# Altium schematic symbol library ParsaLibrary.SchLib: 419 symbols (part 3 of 3)
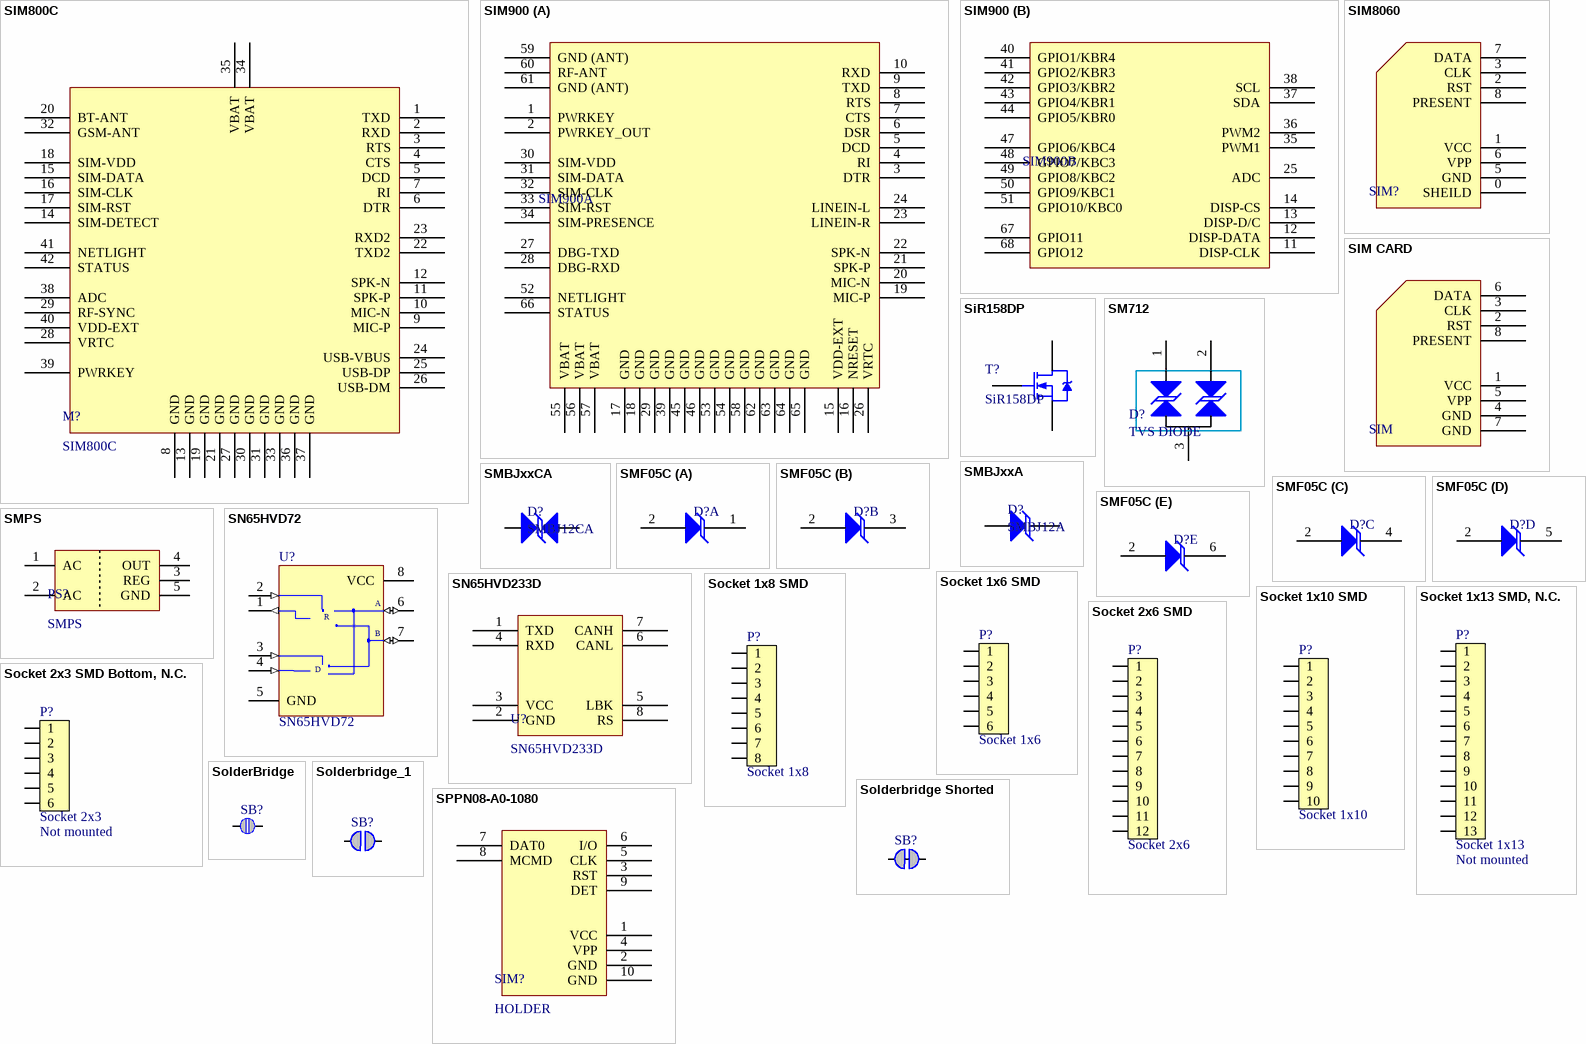
[diagram p19: symbols SIM800C to SPPN08-A0-1080]

## Socket 1x10 SMD
designator P?, comment Socket 1x10
Socket 1x10, 2.54mm (100mil), SMD; Part Number: Socket 1x10 SMD; Manufacturer: W-CON; Manufacturer Part Number: 2171-110MS0CUNR1; Part number IPS: 00000009965; Note: N.A.; Artikkelnr Noca: 55030004; Pad Count: 10; Footprint Doc: SOCKET_1x10_SMD; LatestRevisionDate: 2016-01-22; Published: 2016-01-22; Value: Socket 1x10; ComponentLink1URL: N.A.; ComponentLink1Description: Datasheet; ComponentLink2URL: N.A.; ComponentLink2Description: Supplier link; HelpURL: N.A.; Supplier 1: Cabcon; Supplier Part Number 1: 2171-110MS0CUNR1; Supplier 2: Samtec; Supplier Part Number 2: SSM-110-F-SV-P-TR; Component Class: Connectors; PartId: 100500416
footprint SOCKET_1x10_SMD
pins: 1, 2, 3, 4, 5, 6, 7, 8, 9, 10

## Socket 1x13 SMD, N.C.
designator P?, comment Socket 1x13  Assembly: Not mounted
Socket 1x13, 2.54mm (100mil), SMD; Part Number: Socket 1x13 SMD, N.C.; Manufacturer: W-CON; Manufacturer Part Number: 2171-113MS0CUNR1; Note: N.A.; Pad Count: 13; Footprint Doc: SOCKET_1x13_SMD; LatestRevisionDate: 2019-05-27; Published: 2019-05-27; Value: Socket 1x13; Artikkelnr Noca: N.A.; Part number IPS: N.A.; ComponentLink1URL: N.A.; ComponentLink1Description: Datasheet; ComponentLink2URL: N.A.; ComponentLink2Description: Supplier link; HelpURL: N.A.; Supplier 1: Cabcon; Supplier Part Number 1: 2171-113MS0CUNR1; Supplier 2: Samtec; Supplier Part Number 2: SSM-113-L-SV-P-TR; Component Class: Connectors; PartId: 100500422
footprint LIST_1x13_SMD-NC
pins: 1, 2, 3, 4, 5, 6, 7, 8, 9, 10, 11, 12, 13

## Socket 2x3 SMD Bottom, N.C.
designator P?, comment Socket 2x3  Assembly: Not mounted
Socket 2x3, 2.54mm (100mil), SMD; Part Number: Socket 2x3 SMD Bottom, N.C.; Manufacturer: W-CON; Manufacturer Part Number: 2171-203MS0CUNR1; Note: N.A.; Artikkelnr Noca: 55030010; Pad Count: 6; LatestRevisionDate: 2016-03-29; Published: 2014-06-10; Value: Socket 2x3; Footprint Doc: SOCKET_2x3_SMD-2.54mm-bottom; Part number IPS: N.A.; ComponentLink1URL: N.A.; ComponentLink1Description: Datasheet; ComponentLink2URL: N.A.; ComponentLink2Description: Supplier link; HelpURL: \\hizz\pro\app9717\Datasheet\connectors\W-CON\2171-2XXMXXCUNXX.pdf; Supplier 1: Cabcon; Supplier Part Number 1: 2171-203MS0CUNR1; Supplier 2: Samtec; Supplier Part Number 2: SSM-103-F-DV-P-TR; Component Class: Connectors; PartId: 100500434
footprint SOCKET_2x3_SMD-2.54mm-bottom-NC
pins: 1, 2, 3, 4, 5, 6

## Socket 2x6 SMD
designator P?, comment Socket 2x6
Socket 2x6, 2.54mm (100mil), SMD; Part Number: Socket 2x6 SMD; Manufacturer: W-CON; Manufacturer Part Number: 2171-206MS0CUNR1; Note: N.A.; Pad Count: 12; Footprint Doc: SOCKET_2x6_SMD-2.54mm; LatestRevisionDate: 2019-04-12; Published: 2019-04-12; Value: Socket 2x6; Artikkelnr Noca: N.A.; Part number IPS: N.A.; ComponentLink1URL: N.A.; ComponentLink1Description: Datasheet; ComponentLink2URL: N.A.; ComponentLink2Description: Supplier link; HelpURL: N.A.; Supplier 1: Cabcon; Supplier Part Number 1: 2171-206MS0CUNR1; Supplier 2: Samtec; Supplier Part Number 2: SSM-106-F-DV-P-TR; Component Class: Connectors; PartId: 100500439
footprint SOCKET_2x6_SMD-2.54mm
pins: 1, 2, 3, 4, 5, 6, 7, 8, 9, 10, 11, 12

## SolderBridge
designator SB?  (value not drawn)
footprint SB-NO
pins: 1, 2 1

## Solderbridge Shorted
designator SB?, comment Solderbridge  (value not drawn)  (net tie, no BOM)
Shorted Solderbridge; Part Number: Solderbridge Shorted; Manufacturer: N.A.; Pad Count: 2; Manufacturer Part Number: N.A.; LatestRevisionDate: 2012-08-07; Published: 2012-08-07; Value: Solderbridge; Note: N.A.; Artikkelnr Noca: N.A.; Footprint Doc: Solderbridge_Shorted; Part number IPS: N.A.; ComponentLink1URL: N.A.; ComponentLink1Description: Datasheet; ComponentLink2URL: N.A.; ComponentLink2Description: Supplier link; HelpURL: N.A.; Supplier 1: N.A.; Supplier Part Number 1: N.A.; Supplier 2: N.A.; Supplier Part Number 2: N.A.; Component Class: Connectors; PartId: 100500459
footprint Solderbridge_Shorted
pins: 1 0, 2 1

## Solderbridge_1
designator SB?, comment Solderbridge  (value not drawn)  (no BOM)
Manufacturer: N.A.; Pad Count: 2; Part Number: Solderbridge; Manufacturer Part Number: N.A.; LatestRevisionDate: 2009-12-14; Published: 2009-12-14; Value: Solderbridge; Note: N.A.; Artikkelnr Noca: N.A.; Footprint Doc: Solderbridge; Part number IPS: N.A.; ComponentLink1URL: N.A.; ComponentLink1Description: Datasheet; ComponentLink2URL: N.A.; ComponentLink2Description: Supplier link; HelpURL: N.A.; Supplier 1: N.A.; Supplier Part Number 1: N.A.; Supplier 2: N.A.; Supplier Part Number 2: N.A.; Component Class: Connectors; PartId: 100500458
footprint Solderbridge
pins: 1 0, 2 1

## SPPN08-A0-1080
designator SIM?, comment HOLDER
8pin SimCard holder
footprint SPPN08-A0-1080 (8pin Sim card holder)
pins: 1 VCC, 2 GND, 3 RST, 4 VPP, 5 CLK, 6 I/O, 7 DAT0, 8 MCMD, 9 DET, 10 GND

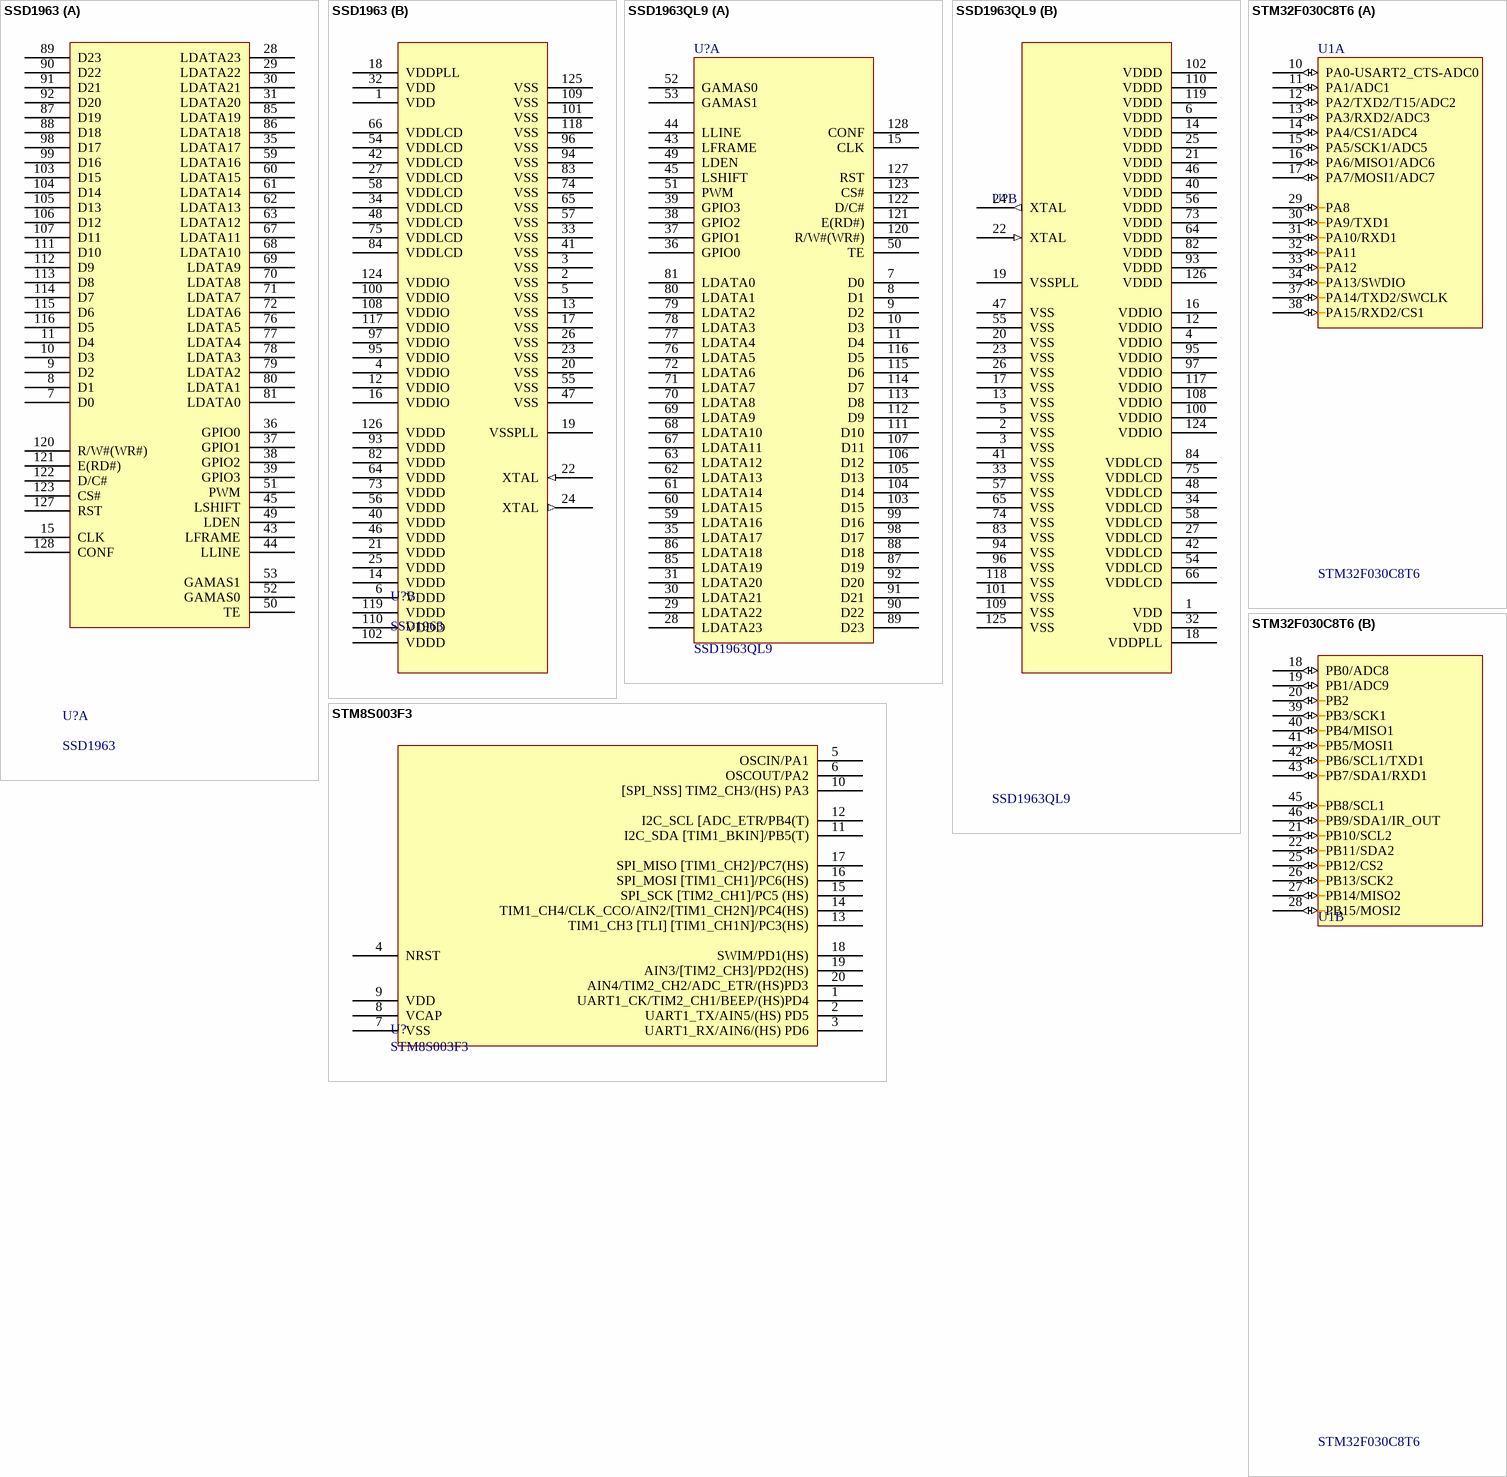
[diagram p12: symbols SSD1963 to STM32F030C8T6]

## SSD1963
designator U?
footprint TQFP-128
part A pins: 7 D0, 8 D1, 9 D2, 10 D3, 11 D4, 15 CLK, 28 LDATA23, 29 LDATA22, 30 LDATA21, 31 LDATA20, 35 LDATA17, 36 GPIO0, 37 GPIO1, 38 GPIO2, 39 GPIO3, 43 LFRAME, 44 LLINE, 45 LSHIFT, 49 LDEN, 50 TE, 51 PWM, 52 GAMAS0, 53 GAMAS1, 59 LDATA16, 60 LDATA15, 61 LDATA14, 62 LDATA13, 63 LDATA12, 67 LDATA11, 68 LDATA10, 69 LDATA9, 70 LDATA8, 71 LDATA7, 72 LDATA6, 76 LDATA5, 77 LDATA4, 78 LDATA3, 79 LDATA2, 80 LDATA1, 81 LDATA0, 85 LDATA19, 86 LDATA18, 87 D19, 88 D18, 89 D23, 90 D22, 91 D21, 92 D20, 98 D17, 99 D16, 103 D15, 104 D14, 105 D13, 106 D12, 107 D11, 111 D10, 112 D9, 113 D8, 114 D7, 115 D6, 116 D5, 120 R/W#(WR#), 121 E(RD#), 122 D/C#, 123 CS#, 127 RST, 128 CONF
part B pins: 1 VDD, 2 VSS, 3 VSS, 4 VDDIO, 5 VSS, 6 VDDD, 12 VDDIO, 13 VSS, 14 VDDD, 16 VDDIO, 17 VSS, 18 VDDPLL, 19 VSSPLL, 20 VSS, 21 VDDD, 22 XTAL (in), 23 VSS, 24 XTAL (out), 25 VDDD, 26 VSS, 27 VDDLCD, 32 VDD, 33 VSS, 34 VDDLCD, 40 VDDD, 41 VSS, 42 VDDLCD, 46 VDDD, 47 VSS, 48 VDDLCD, 54 VDDLCD, 55 VSS, 56 VDDD, 57 VSS, 58 VDDLCD, 64 VDDD, 65 VSS, 66 VDDLCD, 73 VDDD, 74 VSS, 75 VDDLCD, 82 VDDD, 83 VSS, 84 VDDLCD, 93 VDDD, 94 VSS, 95 VDDIO, 96 VSS, 97 VDDIO, 100 VDDIO, 101 VSS, 102 VDDD, 108 VDDIO, 109 VSS, 110 VDDD, 117 VDDIO, 118 VSS, 119 VDDD, 124 VDDIO, 125 VSS, 126 VDDD

## SSD1963QL9
designator U?
footprint TQFP-128
part A pins: 7 D0, 8 D1, 9 D2, 10 D3, 11 D4, 15 CLK, 28 LDATA23, 29 LDATA22, 30 LDATA21, 31 LDATA20, 35 LDATA17, 36 GPIO0, 37 GPIO1, 38 GPIO2, 39 GPIO3, 43 LFRAME, 44 LLINE, 45 LSHIFT, 49 LDEN, 50 TE, 51 PWM, 52 GAMAS0, 53 GAMAS1, 59 LDATA16, 60 LDATA15, 61 LDATA14, 62 LDATA13, 63 LDATA12, 67 LDATA11, 68 LDATA10, 69 LDATA9, 70 LDATA8, 71 LDATA7, 72 LDATA6, 76 LDATA5, 77 LDATA4, 78 LDATA3, 79 LDATA2, 80 LDATA1, 81 LDATA0, 85 LDATA19, 86 LDATA18, 87 D19, 88 D18, 89 D23, 90 D22, 91 D21, 92 D20, 98 D17, 99 D16, 103 D15, 104 D14, 105 D13, 106 D12, 107 D11, 111 D10, 112 D9, 113 D8, 114 D7, 115 D6, 116 D5, 120 R/W#(WR#), 121 E(RD#), 122 D/C#, 123 CS#, 127 RST, 128 CONF
part B pins: 1 VDD, 2 VSS, 3 VSS, 4 VDDIO, 5 VSS, 6 VDDD, 12 VDDIO, 13 VSS, 14 VDDD, 16 VDDIO, 17 VSS, 18 VDDPLL, 19 VSSPLL, 20 VSS, 21 VDDD, 22 XTAL (in), 23 VSS, 24 XTAL (out), 25 VDDD, 26 VSS, 27 VDDLCD, 32 VDD, 33 VSS, 34 VDDLCD, 40 VDDD, 41 VSS, 42 VDDLCD, 46 VDDD, 47 VSS, 48 VDDLCD, 54 VDDLCD, 55 VSS, 56 VDDD, 57 VSS, 58 VDDLCD, 64 VDDD, 65 VSS, 66 VDDLCD, 73 VDDD, 74 VSS, 75 VDDLCD, 82 VDDD, 83 VSS, 84 VDDLCD, 93 VDDD, 94 VSS, 95 VDDIO, 96 VSS, 97 VDDIO, 100 VDDIO, 101 VSS, 102 VDDD, 108 VDDIO, 109 VSS, 110 VDDD, 117 VDDIO, 118 VSS, 119 VDDD, 124 VDDIO, 125 VSS, 126 VDDD

## STM8S003F3
designator U?
Value line, 16-MHz STM8S 8-bit MCU, 8-Kbyte Flash memory, / 128-byte data EEPROM, 10-bit ADC, 3 timers, UART, SPI, I²C
footprint TSSOP-20 (Footprint not found)
pins: 1 UART1_CK/TIM2_CH1/BEEP/(HS)PD4, 2 UART1_TX/AIN5/(HS) PD5, 3 UART1_RX/AIN6/(HS) PD6, 4 NRST, 5 OSCIN/PA1, 6 OSCOUT/PA2, 7 VSS, 8 VCAP, 9 VDD, 10 [SPI_NSS] TIM2_CH3/(HS) PA3, 11 I2C_SDA [TIM1_BKIN]/PB5(T), 12 I2C_SCL [ADC_ETR/PB4(T), 13 TIM1_CH3 [TLI] [TIM1_CH1N]/PC3(HS), 14 TIM1_CH4/CLK_CCO/AIN2/[TIM1_CH2N]/PC4(HS), 15 SPI_SCK [TIM2_CH1]/PC5 (HS), 16 SPI_MOSI [TIM1_CH1]/PC6(HS), 17 SPI_MISO [TIM1_CH2]/PC7(HS), 18 SWIM/PD1(HS), 19 AIN3/[TIM2_CH3]/PD2(HS), 20 AIN4/TIM2_CH2/ADC_ETR/(HS)PD3

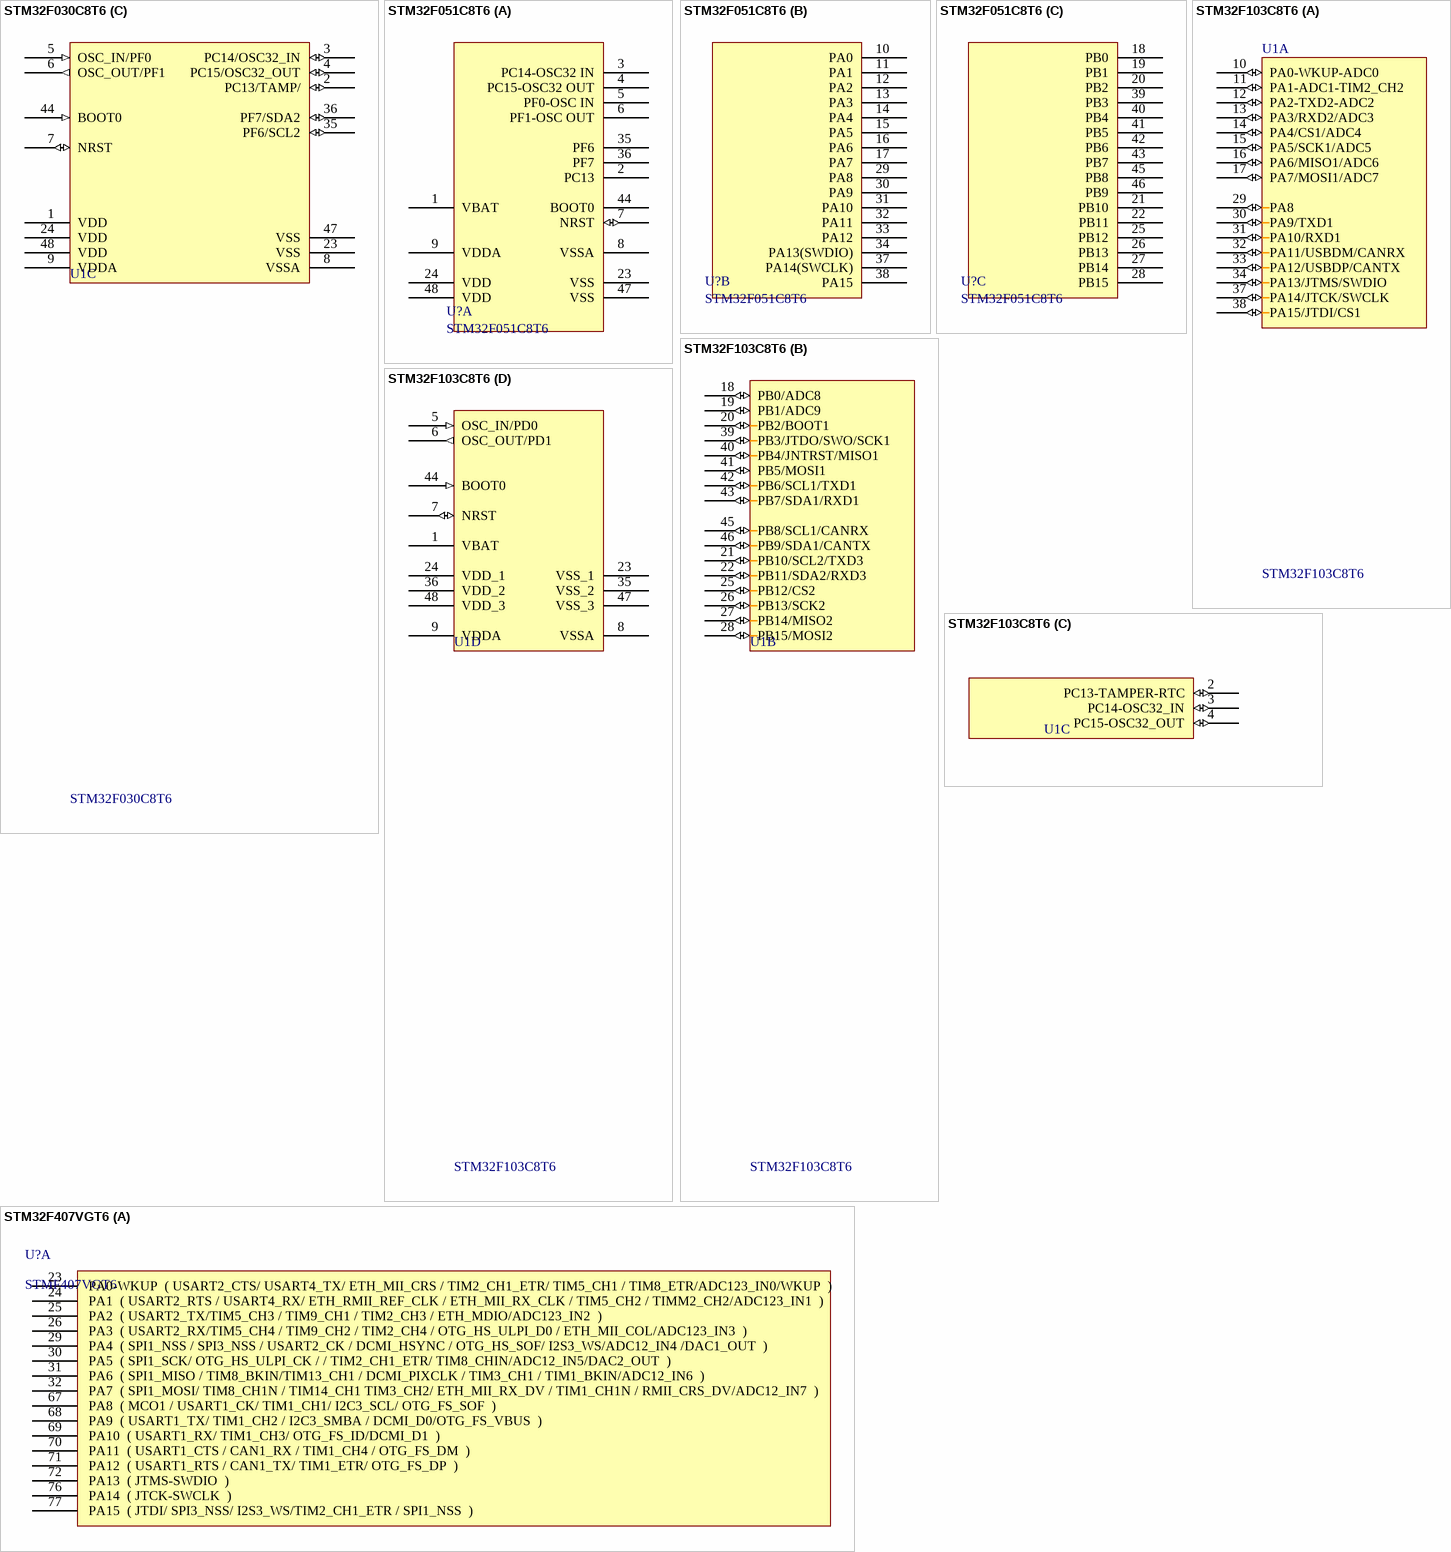
[diagram p13: symbols STM32F030C8T6 to STM32F407VGT6]

## STM32F030C8T6
designator U1
STM32 ARM-based 32-bit MCU with 64 Kbytes Flash, 48-pin LQFP, Industrial Temperature; Published: 30-May-2008; DatasheetVersion: rev6, Mar-2008; PackageVersion: Mar-2008; PackageReference: LQFP48; Publisher: Altium Limited; PackageDescription: 48-Pin Low-Profile Quad Flat Pack, 7 x 7 mm Body, 0.5 mm Pitch (LQFP48); ComponentLink1Description: Manufacturer Link; ComponentLink1URL: www.st.com/stm32; ComponentLink2Description: Datasheet; ComponentLink2URL: http://www.st.com/stonline/products/literature/ds/13587.pdf
footprint LQFP-48
part A pins: 10 PA0-USART2_CTS-ADC0 (io), 11 PA1/ADC1 (io), 12 PA2/TXD2/T15/ADC2 (io), 13 PA3/RXD2/ADC3 (io), 14 PA4/CS1/ADC4 (io), 15 PA5/SCK1/ADC5 (io), 16 PA6/MISO1/ADC6 (io), 17 PA7/MOSI1/ADC7 (io), 29 PA8 (io), 30 PA9/TXD1 (io), 31 PA10/RXD1 (io), 32 PA11 (io), 33 PA12 (io), 34 PA13/SWDIO (io), 37 PA14/TXD2/SWCLK (io), 38 PA15/RXD2/CS1 (io)
part B pins: 18 PB0/ADC8 (io), 19 PB1/ADC9 (io), 20 PB2 (io), 21 PB10/SCL2 (io), 22 PB11/SDA2 (io), 25 PB12/CS2 (io), 26 PB13/SCK2 (io), 27 PB14/MISO2 (io), 28 PB15/MOSI2 (io), 39 PB3/SCK1 (io), 40 PB4/MISO1 (io), 41 PB5/MOSI1 (io), 42 PB6/SCL1/TXD1 (io), 43 PB7/SDA1/RXD1 (io), 45 PB8/SCL1 (io), 46 PB9/SDA1/IR_OUT (io)
part C pins: 1 VDD (power), 2 PC13/TAMP/ (io), 3 PC14/OSC32_IN (io), 4 PC15/OSC32_OUT (io), 5 OSC_IN/PF0 (in), 6 OSC_OUT/PF1 (out), 7 NRST (io), 8 VSSA (power), 9 VDDA (power), 23 VSS (power), 24 VDD (power), 35 PF6/SCL2 (io), 36 PF7/SDA2 (io), 44 BOOT0 (in), 47 VSS (power), 48 VDD (power)

## STM32F051C8T6
designator U?
ARM®-based 32-bit MCU, 16 to 64 KB Flash, 11 timers, ADC, / DAC and communication interfaces, 2.0-3.6 V
footprint LQFP-48
part A pins: 1 VBAT, 2 PC13, 3 PC14-OSC32 IN, 4 PC15-OSC32 OUT, 5 PF0-OSC IN, 6 PF1-OSC OUT, 7 NRST (io) "Device reset input / internal reset output", 8 VSSA (power) "Analog ground", 9 VDDA (power), 23 VSS, 24 VDD, 35 PF6, 36 PF7, 44 BOOT0, 47 VSS, 48 VDD
part B pins: 10 PA0, 11 PA1, 12 PA2, 13 PA3, 14 PA4, 15 PA5, 16 PA6, 17 PA7, 29 PA8, 30 PA9, 31 PA10, 32 PA11, 33 PA12, 34 PA13(SWDIO), 37 PA14(SWCLK), 38 PA15
part C pins: 18 PB0, 19 PB1, 20 PB2, 21 PB10, 22 PB11, 25 PB12, 26 PB13, 27 PB14, 28 PB15, 39 PB3, 40 PB4, 41 PB5, 42 PB6, 43 PB7, 45 PB8, 46 PB9

## STM32F103C8T6
designator U1
STM32 ARM-based 32-bit MCU with 64 Kbytes Flash, 48-pin LQFP, Industrial Temperature; Published: 30-May-2008; DatasheetVersion: rev6, Mar-2008; PackageVersion: Mar-2008; PackageReference: LQFP48; Publisher: Altium Limited; PackageDescription: 48-Pin Low-Profile Quad Flat Pack, 7 x 7 mm Body, 0.5 mm Pitch (LQFP48); ComponentLink1Description: Manufacturer Link; ComponentLink1URL: www.st.com/stm32; ComponentLink2Description: Datasheet; ComponentLink2URL: http://www.st.com/stonline/products/literature/ds/13587.pdf
footprint LQFP-48
part A pins: 10 PA0-WKUP-ADC0 (io), 11 PA1-ADC1-TIM2_CH2 (io), 12 PA2-TXD2-ADC2 (io), 13 PA3/RXD2/ADC3 (io), 14 PA4/CS1/ADC4 (io), 15 PA5/SCK1/ADC5 (io), 16 PA6/MISO1/ADC6 (io), 17 PA7/MOSI1/ADC7 (io), 29 PA8 (io), 30 PA9/TXD1 (io), 31 PA10/RXD1 (io), 32 PA11/USBDM/CANRX (io), 33 PA12/USBDP/CANTX (io), 34 PA13/JTMS/SWDIO (io), 37 PA14/JTCK/SWCLK (io), 38 PA15/JTDI/CS1 (io)
part B pins: 18 PB0/ADC8 (io), 19 PB1/ADC9 (io), 20 PB2/BOOT1 (io), 21 PB10/SCL2/TXD3 (io), 22 PB11/SDA2/RXD3 (io), 25 PB12/CS2 (io), 26 PB13/SCK2 (io), 27 PB14/MISO2 (io), 28 PB15/MOSI2 (io), 39 PB3/JTDO/SWO/SCK1 (io), 40 PB4/JNTRST/MISO1 (io), 41 PB5/MOSI1 (io), 42 PB6/SCL1/TXD1 (io), 43 PB7/SDA1/RXD1 (io), 45 PB8/SCL1/CANRX (io), 46 PB9/SDA1/CANTX (io)
part C pins: 2 PC13-TAMPER-RTC (io), 3 PC14-OSC32_IN (io), 4 PC15-OSC32_OUT (io)
part D pins: 1 VBAT (power), 5 OSC_IN/PD0 (in), 6 OSC_OUT/PD1 (out), 7 NRST (io), 8 VSSA (power), 9 VDDA (power), 23 VSS_1 (power), 24 VDD_1 (power), 35 VSS_2 (power), 36 VDD_2 (power), 44 BOOT0 (in), 47 VSS_3 (power), 48 VDD_3 (power)

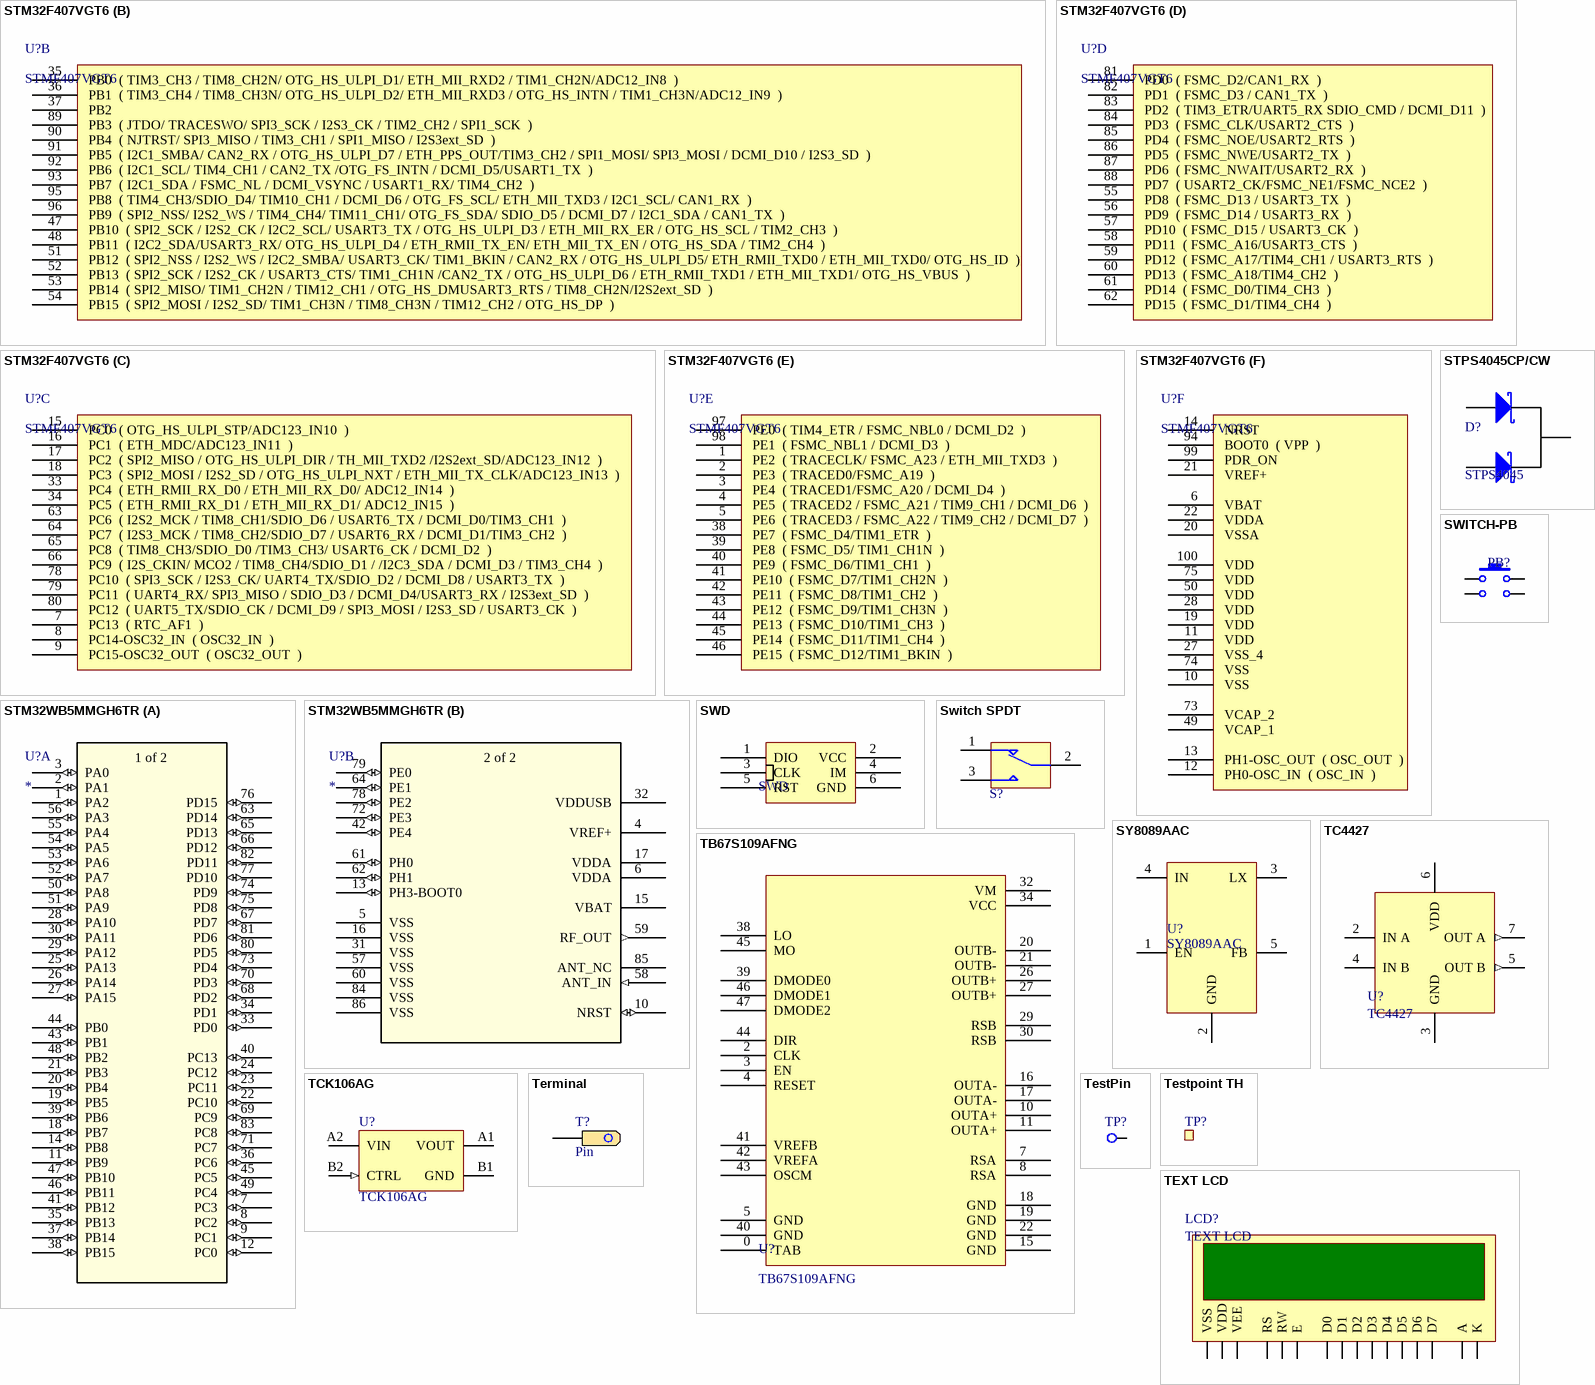
[diagram p14: symbols STM32F407VGT6 to TEXT LCD]

## STM32F407VGT6
designator U?, comment STMF407VGT6
footprint TQFP-100
part A pins: 23  PA0-WKUP  ( USART2_CTS/ USART4_TX/ ETH_MII_CRS / TIM2_CH1_ETR/ TIM5_CH1 / TIM8_ETR/ADC123_IN0/WKUP  ), 24  PA1  ( USART2_RTS / USART4_RX/ ETH_RMII_REF_CLK / ETH_MII_RX_CLK / TIM5_CH2 / TIMM2_CH2/ADC123_IN1  ), 25  PA2  ( USART2_TX/TIM5_CH3 / TIM9_CH1 / TIM2_CH3 / ETH_MDIO/ADC123_IN2  ), 26  PA3  ( USART2_RX/TIM5_CH4 / TIM9_CH2 / TIM2_CH4 / OTG_HS_ULPI_D0 / ETH_MII_COL/ADC123_IN3  ), 29  PA4  ( SPI1_NSS / SPI3_NSS / USART2_CK / DCMI_HSYNC / OTG_HS_SOF/ I2S3_WS/ADC12_IN4 /DAC1_OUT  ), 30  PA5  ( SPI1_SCK/ OTG_HS_ULPI_CK / / TIM2_CH1_ETR/ TIM8_CHIN/ADC12_IN5/DAC2_OUT  ), 31  PA6  ( SPI1_MISO / TIM8_BKIN/TIM13_CH1 / DCMI_PIXCLK / TIM3_CH1 / TIM1_BKIN/ADC12_IN6  ), 32  PA7  ( SPI1_MOSI/ TIM8_CH1N / TIM14_CH1 TIM3_CH2/ ETH_MII_RX_DV / TIM1_CH1N / RMII_CRS_DV/ADC12_IN7  ), 67  PA8  ( MCO1 / USART1_CK/ TIM1_CH1/ I2C3_SCL/ OTG_FS_SOF  ), 68  PA9  ( USART1_TX/ TIM1_CH2 / I2C3_SMBA / DCMI_D0/OTG_FS_VBUS  ), 69  PA10  ( USART1_RX/ TIM1_CH3/ OTG_FS_ID/DCMI_D1  ), 70  PA11  ( USART1_CTS / CAN1_RX / TIM1_CH4 / OTG_FS_DM  ), 71  PA12  ( USART1_RTS / CAN1_TX/ TIM1_ETR/ OTG_FS_DP  ), 72  PA13  ( JTMS-SWDIO  ), 76  PA14  ( JTCK-SWCLK  ), 77  PA15  ( JTDI/ SPI3_NSS/ I2S3_WS/TIM2_CH1_ETR / SPI1_NSS  )
part B pins: 35  PB0  ( TIM3_CH3 / TIM8_CH2N/ OTG_HS_ULPI_D1/ ETH_MII_RXD2 / TIM1_CH2N/ADC12_IN8  ), 36  PB1  ( TIM3_CH4 / TIM8_CH3N/ OTG_HS_ULPI_D2/ ETH_MII_RXD3 / OTG_HS_INTN / TIM1_CH3N/ADC12_IN9  ), 37  PB2  , 47  PB10  ( SPI2_SCK / I2S2_CK / I2C2_SCL/ USART3_TX / OTG_HS_ULPI_D3 / ETH_MII_RX_ER / OTG_HS_SCL / TIM2_CH3  ), 48  PB11  ( I2C2_SDA/USART3_RX/ OTG_HS_ULPI_D4 / ETH_RMII_TX_EN/ ETH_MII_TX_EN / OTG_HS_SDA / TIM2_CH4  ), 51  PB12  ( SPI2_NSS / I2S2_WS / I2C2_SMBA/ USART3_CK/ TIM1_BKIN / CAN2_RX / OTG_HS_ULPI_D5/ ETH_RMII_TXD0 / ETH_MII_TXD0/ OTG_HS_ID  ), 52  PB13  ( SPI2_SCK / I2S2_CK / USART3_CTS/ TIM1_CH1N /CAN2_TX / OTG_HS_ULPI_D6 / ETH_RMII_TXD1 / ETH_MII_TXD1/ OTG_HS_VBUS  ), 53  PB14  ( SPI2_MISO/ TIM1_CH2N / TIM12_CH1 / OTG_HS_DMUSART3_RTS / TIM8_CH2N/I2S2ext_SD  ), 54  PB15  ( SPI2_MOSI / I2S2_SD/ TIM1_CH3N / TIM8_CH3N / TIM12_CH2 / OTG_HS_DP  ), 89  PB3  ( JTDO/ TRACESWO/ SPI3_SCK / I2S3_CK / TIM2_CH2 / SPI1_SCK  ), 90  PB4  ( NJTRST/ SPI3_MISO / TIM3_CH1 / SPI1_MISO / I2S3ext_SD  ), 91  PB5  ( I2C1_SMBA/ CAN2_RX / OTG_HS_ULPI_D7 / ETH_PPS_OUT/TIM3_CH2 / SPI1_MOSI/ SPI3_MOSI / DCMI_D10 / I2S3_SD  ), 92  PB6  ( I2C1_SCL/ TIM4_CH1 / CAN2_TX /OTG_FS_INTN / DCMI_D5/USART1_TX  ), 93  PB7  ( I2C1_SDA / FSMC_NL / DCMI_VSYNC / USART1_RX/ TIM4_CH2  ), 95  PB8  ( TIM4_CH3/SDIO_D4/ TIM10_CH1 / DCMI_D6 / OTG_FS_SCL/ ETH_MII_TXD3 / I2C1_SCL/ CAN1_RX  ), 96  PB9  ( SPI2_NSS/ I2S2_WS / TIM4_CH4/ TIM11_CH1/ OTG_FS_SDA/ SDIO_D5 / DCMI_D7 / I2C1_SDA / CAN1_TX  )
part C pins: 7  PC13  ( RTC_AF1  ), 8  PC14-OSC32_IN  ( OSC32_IN  ), 9  PC15-OSC32_OUT  ( OSC32_OUT  ), 15  PC0  ( OTG_HS_ULPI_STP/ADC123_IN10  ), 16  PC1  ( ETH_MDC/ADC123_IN11  ), 17  PC2  ( SPI2_MISO / OTG_HS_ULPI_DIR / TH_MII_TXD2 /I2S2ext_SD/ADC123_IN12  ), 18  PC3  ( SPI2_MOSI / I2S2_SD / OTG_HS_ULPI_NXT / ETH_MII_TX_CLK/ADC123_IN13  ), 33  PC4  ( ETH_RMII_RX_D0 / ETH_MII_RX_D0/ ADC12_IN14  ), 34  PC5  ( ETH_RMII_RX_D1 / ETH_MII_RX_D1/ ADC12_IN15  ), 63  PC6  ( I2S2_MCK / TIM8_CH1/SDIO_D6 / USART6_TX / DCMI_D0/TIM3_CH1  ), 64  PC7  ( I2S3_MCK / TIM8_CH2/SDIO_D7 / USART6_RX / DCMI_D1/TIM3_CH2  ), 65  PC8  ( TIM8_CH3/SDIO_D0 /TIM3_CH3/ USART6_CK / DCMI_D2  ), 66  PC9  ( I2S_CKIN/ MCO2 / TIM8_CH4/SDIO_D1 / /I2C3_SDA / DCMI_D3 / TIM3_CH4  ), 78  PC10  ( SPI3_SCK / I2S3_CK/ UART4_TX/SDIO_D2 / DCMI_D8 / USART3_TX  ), 79  PC11  ( UART4_RX/ SPI3_MISO / SDIO_D3 / DCMI_D4/USART3_RX / I2S3ext_SD  ), 80  PC12  ( UART5_TX/SDIO_CK / DCMI_D9 / SPI3_MOSI / I2S3_SD / USART3_CK  )
part D pins: 55  PD8  ( FSMC_D13 / USART3_TX  ), 56  PD9  ( FSMC_D14 / USART3_RX  ), 57  PD10  ( FSMC_D15 / USART3_CK  ), 58  PD11  ( FSMC_A16/USART3_CTS  ), 59  PD12  ( FSMC_A17/TIM4_CH1 / USART3_RTS  ), 60  PD13  ( FSMC_A18/TIM4_CH2  ), 61  PD14  ( FSMC_D0/TIM4_CH3  ), 62  PD15  ( FSMC_D1/TIM4_CH4  ), 81  PD0  ( FSMC_D2/CAN1_RX  ), 82  PD1  ( FSMC_D3 / CAN1_TX  ), 83  PD2  ( TIM3_ETR/UART5_RX SDIO_CMD / DCMI_D11  ), 84  PD3  ( FSMC_CLK/USART2_CTS  ), 85  PD4  ( FSMC_NOE/USART2_RTS  ), 86  PD5  ( FSMC_NWE/USART2_TX  ), 87  PD6  ( FSMC_NWAIT/USART2_RX  ), 88  PD7  ( USART2_CK/FSMC_NE1/FSMC_NCE2  )
part E pins: 1  PE2  ( TRACECLK/ FSMC_A23 / ETH_MII_TXD3  ), 2  PE3  ( TRACED0/FSMC_A19  ), 3  PE4  ( TRACED1/FSMC_A20 / DCMI_D4  ), 4  PE5  ( TRACED2 / FSMC_A21 / TIM9_CH1 / DCMI_D6  ), 5  PE6  ( TRACED3 / FSMC_A22 / TIM9_CH2 / DCMI_D7  ), 38  PE7  ( FSMC_D4/TIM1_ETR  ), 39  PE8  ( FSMC_D5/ TIM1_CH1N  ), 40  PE9  ( FSMC_D6/TIM1_CH1  ), 41  PE10  ( FSMC_D7/TIM1_CH2N  ), 42  PE11  ( FSMC_D8/TIM1_CH2  ), 43  PE12  ( FSMC_D9/TIM1_CH3N  ), 44  PE13  ( FSMC_D10/TIM1_CH3  ), 45  PE14  ( FSMC_D11/TIM1_CH4  ), 46  PE15  ( FSMC_D12/TIM1_BKIN  ), 97  PE0  ( TIM4_ETR / FSMC_NBL0 / DCMI_D2  ), 98  PE1  ( FSMC_NBL1 / DCMI_D3  )
part F pins: 6  VBAT  , 10  VSS  , 11  VDD  , 12  PH0-OSC_IN  ( OSC_IN  ), 13  PH1-OSC_OUT  ( OSC_OUT  ), 14  NRST  , 19  VDD  , 20  VSSA  , 21  VREF+  , 22  VDDA  , 27  VSS_4  , 28  VDD  , 49  VCAP_1  , 50  VDD  , 73  VCAP_2  , 74  VSS  , 75  VDD  , 94  BOOT0  ( VPP  ), 99  PDR_ON  , 100  VDD  

## STM32WB5MMGH6TR
designator U?
Mfr_Name: STMicroelectronics; RefDes: RefDes; Type: Type
footprint SIP-LGA86 (Footprint not found)
part A pins: 1 PA2 (io), 2 PA1 (io), 3 PA0 (io), 7 PC3 (io), 8 PC2 (io), 9 PC1 (io), 11 PB9 (io), 12 PC0 (io), 14 PB8 (io), 18 PB7 (io), 19 PB5 (io), 20 PB4 (io), 21 PB3 (io), 22 PC10 (io), 23 PC11 (io), 24 PC12 (io), 25 PA13 (io), 26 PA14 (io), 27 PA15 (io), 28 PA10 (io), 29 PA12 (io), 30 PA11 (io), 33 PD0 (io), 34 PD1 (io), 35 PB13 (io), 36 PC6 (io), 37 PB14 (io), 38 PB15 (io), 39 PB6 (io), 40 PC13 (io), 41 PB12 (io), 43 PB1 (io), 44 PB0 (io), 45 PC5 (io), 46 PB11 (io), 47 PB10 (io), 48 PB2 (io), 49 PC4 (io), 50 PA8 (io), 51 PA9 (io), 52 PA7 (io), 53 PA6 (io), 54 PA5 (io), 55 PA4 (io), 56 PA3 (io), 63 PD14 (io), 65 PD13 (io), 66 PD12 (io), 67 PD7 (io), 68 PD2 (io), 69 PC9 (io), 70 PD3 (io), 71 PC7 (io), 73 PD4 (io), 74 PD9 (io), 75 PD8 (io), 76 PD15 (io), 77 PD10 (io), 80 PD5 (io), 81 PD6 (io), 82 PD11 (io), 83 PC8 (io)
part B pins: 4 VREF+ (power), 5 VSS (power), 6 VDDA (power), 10 NRST (io), 13 PH3-BOOT0 (io), 15 VBAT (power), 16 VSS (power), 17 VDDA (power), 31 VSS (power), 32 VDDUSB (power), 42 PE4 (io), 57 VSS (power), 58 ANT_IN (in), 59 RF_OUT (out), 60 VSS (power), 61 PH0 (io), 62 PH1 (io), 64 PE1 (io), 72 PE3 (io), 78 PE2 (io), 79 PE0 (io), 84 VSS (power), 85 ANT_NC, 86 VSS (power)
part A text: 1 of 2
part B text: 2 of 2

## STPS4045CP/CW
designator D?, comment STPS4045
POWER SCHOTTKY RECTIFIERS; Published: 8-Jun-2000; LatestRevisionDate: 17-Jul-2002; LatestRevisionNote: Re-released for DXP Platform.; PackageReference: SMB; Publisher: Altium Limited; PackageDescription: DO-214-AA/SMB; 2 C-Bend Leads; Body 5.3 x 3.6 mm, inc. leads (LxW); Code_JEDEC: DO-214-AA
footprint TO-247 (SIP with Mounting Hole; 3 Leads; Body 20 x 15.6 x 5 mm (typ); Pitch 5.45 mm)
pins: 1 A1, 2 K, 3 A2

## SWD
designator SWD, comment PHDR 2X6  (value not drawn)
footprint phdr2x3
pins: 1 DIO, 2 VCC, 3 CLK, 4 IM, 5 RST, 6 GND

## Switch SPDT
designator S?  (value not drawn)
Subminiator SPDT Switch; Company: E.P.I.L; Design date: 2011/11/02
footprint SPDT Subminiator (Subminiator SPDT switch)
footprint spdt-smd-1
pins: 1, 2, 3

## SWITCH-PB
designator PB?, comment Push Button  (value not drawn)
footprint PB-SMD-3
footprint PB-SMD-1
footprint PB-SMD-2
footprint PB-1 (SHORT PUSH BUTTON)
footprint PB-2
footprint PB-3 (12mmx12mm)
pins: 1, 2, 3, 4

## SY8089AAC
designator U?
High Efficiency 5.5V, 2A continuous, 3A peak,1MHz / Synchronous Step Down Regulator
footprint SOT-23-5
pins: 1 EN, 2 GND, 3 LX, 4 IN, 5 FB

## TB67S109AFNG
designator U?
footprint QFN-48
pins: 0 TAB, 1 NC hidden, 2 CLK, 3 EN, 4 RESET, 5 GND, 6 NC hidden, 7 RSA, 8 RSA, 9 NC hidden, 10 OUTA+ (power), 11 OUTA+ (power), 12 NC hidden, 13 NC hidden, 14 NC hidden, 15 GND, 16 OUTA- (power), 17 OUTA- (power), 18 GND, 19 GND, 20 OUTB- (power), 21 OUTB- (power), 22 GND, 23 NC hidden, 24 NC hidden, 25 NC hidden, 26 OUTB+ (power), 27 OUTB+ (power), 28 NC hidden, 29 RSB, 30 RSB, 31 NC hidden, 32 VM, 33 NC hidden, 34 VCC, 35 NC hidden, 36 NC hidden, 37 NC hidden, 38 LO, 39 DMODE0, 40 GND, 41 VREFB, 42 VREFA, 43 OSCM, 44 DIR, 45 MO, 46 DMODE1, 47 DMODE2, 48 NC hidden

## TC4427
designator U?
1.5A Dual High-Speed Power MOSFET Drivers
footprint SOIC-8N
pins: 2 IN A, 3 GND (power), 4 IN B, 5 OUT B (out), 6 VDD (power), 7 OUT A (out)

## TCK106AG
designator U?
1.0 A Load Switch IC with Slew Rate Control Driver in Ultra Small Package; Manufacturer: Toshiba; Manufacturer Part Number: TCK106AG,LF; Part number IPS: 00000004390; Note: N.A.; Pad Count: 4; Part Number: TCK106AG; Footprint Doc: WLCSP-4; LatestRevisionDate: 2019-03-01; Published: 2019-02-17; Value: TCK106AG; Artikkelnr Noca: N.A.; ComponentLink1URL: https://toshiba.semicon-storage.com/info/docget.jsp?did=30131&prodName=TCK106AG; ComponentLink1Description: Datasheet; ComponentLink2URL: N.A.; ComponentLink2Description: Supplier link; HelpURL: N.A.; Supplier 1: Digi-Key; Supplier Part Number 1: TCK106AGLFTR-ND; Supplier 2: Mouser; Supplier Part Number 2: 757-TCK106AGLF; Component Class: Misc_ICs; PartId: 101900575
footprint BGA4C40P2X2_76X76X62
pins: A1 VOUT (power), A2 VIN (power), B1 GND (power), B2 CTRL (in)

## Terminal
designator T?, comment Pin
footprint terminal
footprint terminal-small
pins: 1 Pin

## TestPin
designator TP?  (value not drawn)
pins: 1

## Testpoint TH
designator TP?, comment TP  (value not drawn)  (no BOM)
Testpoint, through hole; Part Number: Testpoint TH; Manufacturer: N.A.; Pad Count: 1; Manufacturer Part Number: N.A.; Footprint Doc: TESTPAD-TH; LatestRevisionDate: 2009-12-12; Published: 2009-12-12; Value: TP; Note: N.A.; Artikkelnr Noca: N.A.; Part number IPS: N.A.; ComponentLink1URL: N.A.; ComponentLink1Description: Datasheet; ComponentLink2URL: N.A.; ComponentLink2Description: Supplier link; HelpURL: N.A.; Supplier 1: N.A.; Supplier Part Number 1: N.A.; Supplier 2: N.A.; Supplier Part Number 2: N.A.; Component Class: Connectors; PartId: 100500464
footprint TESTPAD-TH
pins: 1

## TEXT LCD
designator LCD?
Use for all 8bit LCD text of any size
footprint HDR2X8 (Footprint not found)
pins: 1 VSS, 2 VDD, 3 VEE, 4 RS, 5 RW, 6 E, 7 D0, 8 D1, 9 D2, 10 D3, 11 D4, 12 D5, 13 D6, 14 D7, 15 A, 16 K, MH hidden

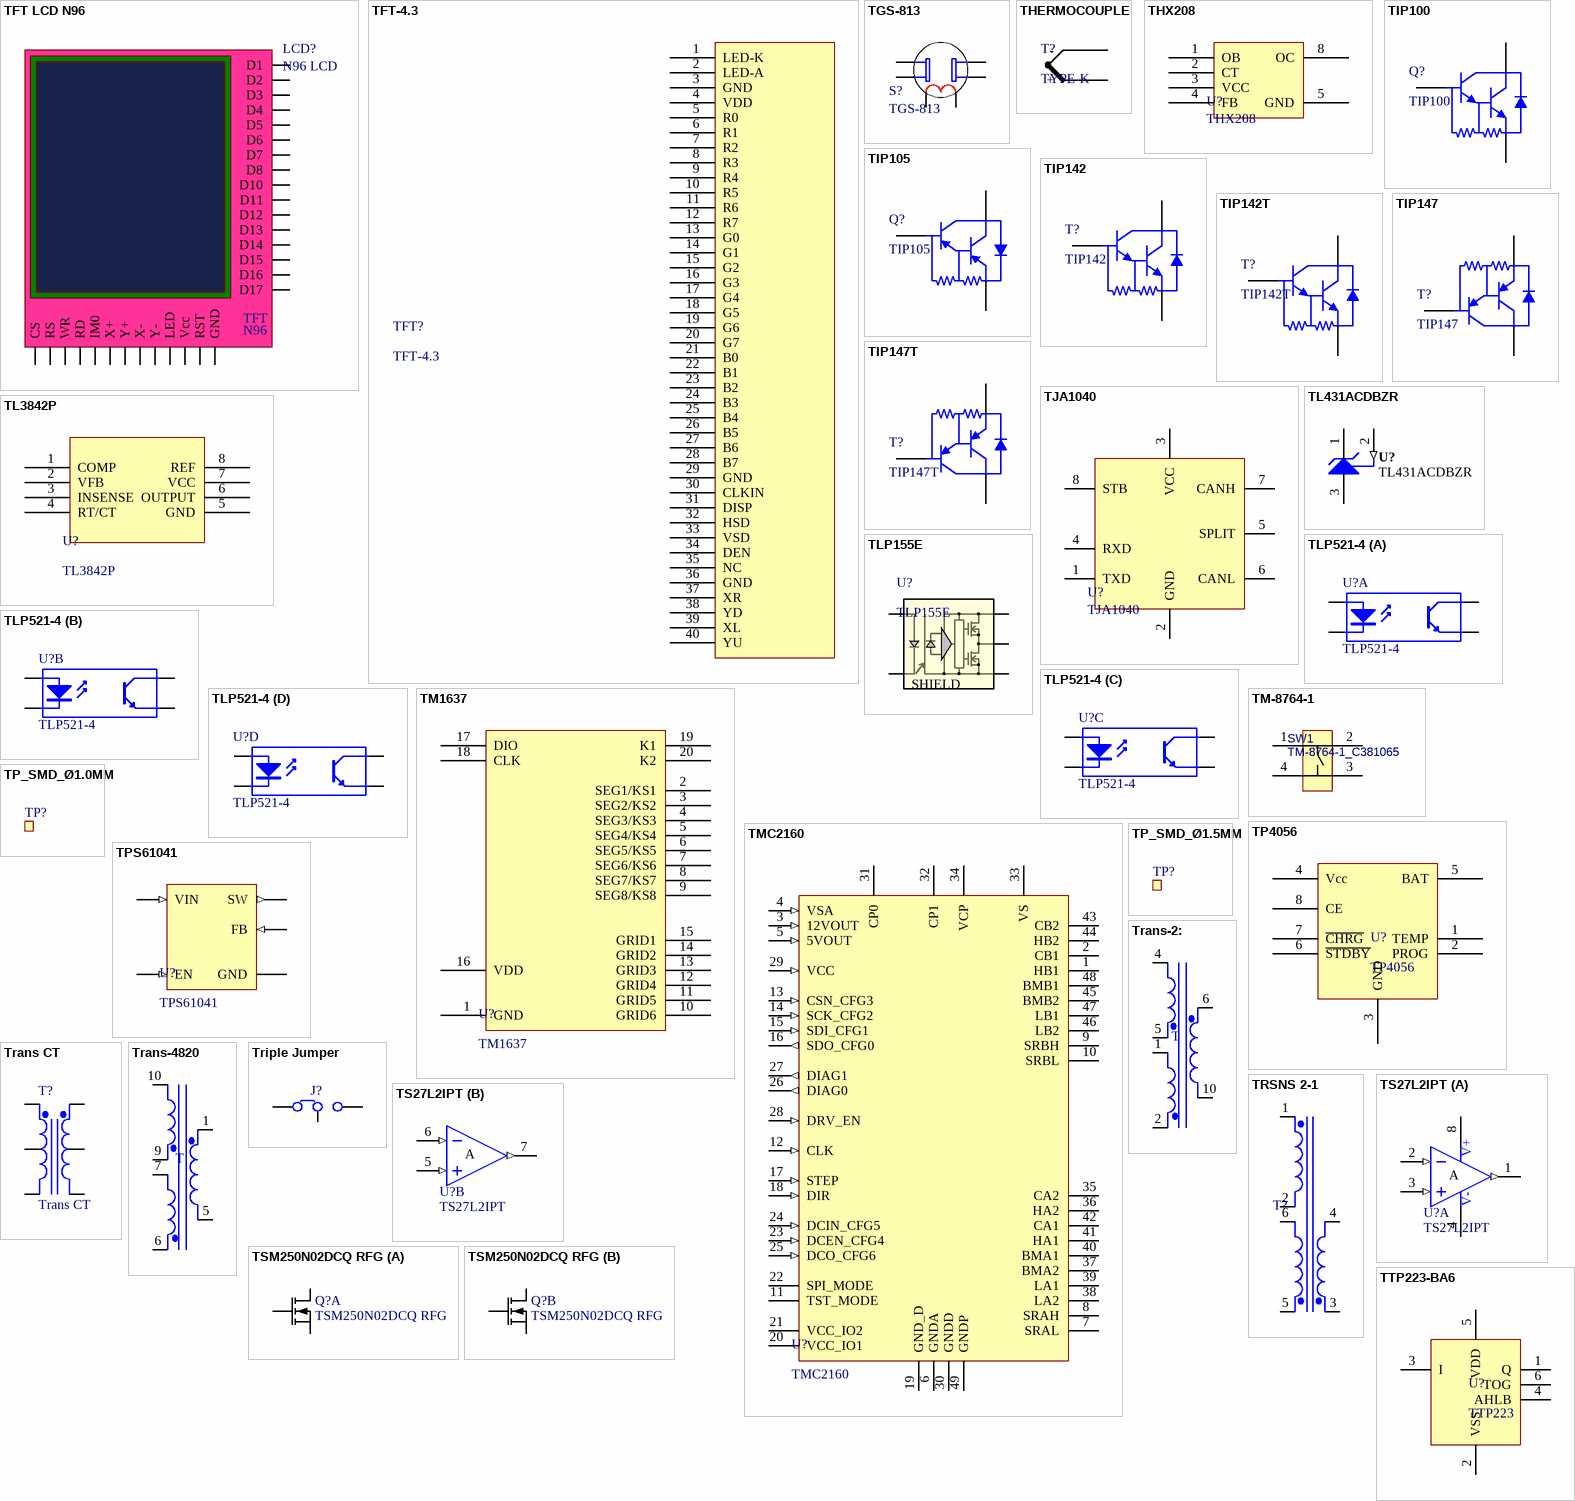
[diagram p15: symbols TFT LCD N96 to TTP223-BA6]

## TFT LCD N96
designator LCD?, comment N96 LCD
N96 TFT LCD Module
footprint 2.8" TFT (ECA TFT LCD)
pins: 1 D2, 2 D1, 3 D4, 4 D3, 5 CS, 6 Vcc, 7 WR, 8 RS, 9 IM0, 10 RD, 11 Y+, 12 X+, 13 Y-, 14 X-, 15 GND, 16 LED, 17 D10, 18 D5, 19 D12, 20 D11, 21 D14, 22 D13, 23 D16, 24 D15, 25 RST, 26 D17, 27 D6, 29 D8, 30 D7
text: TFT; N96

## TFT-4.3
designator TFT?
pins: 1 LED-K, 2 LED-A, 3 GND, 4 VDD, 5 R0, 6 R1, 7 R2, 8 R3, 9 R4, 10 R5, 11 R6, 12 R7, 13 G0, 14 G1, 15 G2, 16 G3, 17 G4, 18 G5, 19 G6, 20 G7, 21 B0, 22 B1, 23 B2, 24 B3, 25 B4, 26 B5, 27 B6, 28 B7, 29 GND, 30 CLKIN, 31 DISP, 32 HSD, 33 VSD, 34 DEN, 35 NC, 36 GND, 37 XR, 38 YD, 39 XL, 40 YU

## TGS-813
designator S?
TGS 813 - for the detection of Combustible Gases
footprint TGS-813
pins: 1, 2, 3, 4, 5, 6

## THERMOCOUPLE
designator T?, comment TYPE-K
footprint PCC-SMP
pins: 1 -, 2 +

## THX208
designator U?
footprint SOIC-6N
pins: 1 OB, 2 CT, 3 VCC, 4 FB, 5 GND, 8 OC

## TIP100
designator Q?
TIP100,TIP101,TIP102
footprint TO-220
pins: 1 B, 2 C, 3 E

## TIP105
designator Q?
TIP105,TIP106,T107
footprint TO-220
pins: 1 B, 2 C, 3 E

## TIP142
designator T?
TIP142,TIP141,TIP140
footprint TO-247 (SIP with Mounting Hole; 3 Leads; Body 20 x 15.6 x 5 mm (typ); Pitch 5.45 mm)
pins: 1 B, 2 C, 3 E

## TIP142T
designator T?
10A 100V  Darlington transistors
footprint TO-220
footprint TO-220 RIGHT
pins: 1 B, 2 C, 3 E

## TIP147
designator T?
TIP145,TIP146,TIP147
footprint TO-247 (SIP with Mounting Hole; 3 Leads; Body 20 x 15.6 x 5 mm (typ); Pitch 5.45 mm)
pins: 1 B, 2 C, 3 E

## TIP147T
designator T?
-10A -100V  Darlington transistors
footprint TO-220
footprint TO-220 RIGHT
pins: 1 B, 2 C, 3 E

## TJA1040
designator U?
footprint SOIC-8N
pins: 1 TXD, 2 GND, 3 VCC, 4 RXD, 5 SPLIT, 6 CANL, 7 CANH, 8 STB

## TL431ACDBZR
designator U?
Adjustable Precision Shunt Regulator, 34 ppm / degC, 100 mA, 0 to 70 degC, 3-pin SOT-23 (DBZ), Green (RoHS & no Sb/Br); Manufacturer: Texas Instruments; Initial Accuracy @ 25/deg C(%): 1; Iout/Iz(Max)(mA): 100; Min Iz for Regulation(uA): 600; Rating: Catalog; SubFamily: Shunt Voltage Reference; Temp Coeff(Typ)(ppm/ degree C): 34; VO Adj(Max)(V): 36; VO Adj(Min)(V): 2.495; DatasheetVersion: SLVS543M; PackageVersion: 4203227/B; PackageReference: DBZ3; PackageDescription: 3-Pin Plastic Small Outline, Body 2.92 x 1.3 mm, Pitch 0.95 mm; Supplier 1: Digi-Key; Supplier Part Number 1: 296-17328-2-ND; Supplier 2: Digi-Key; Supplier Part Number 2: 296-17328-1-ND; Supplier 3: Digi-Key; Supplier Part Number 3: 296-17328-6-ND; Supplier 4: Farnell; Supplier Part Number 4: 1411099; Supplier 5: Newark; Supplier Part Number 5: 44J2369; Supplier 6: Mouser; Supplier Part Number 6: 595-TL431ACDBZR; Eco-Plan: Green (RoHS & no Sb/Br); Mounting Technology: Surface Mount; Code_JEDEC: TO-236; PartNumber: TL431ACDBZR; ComponentLink1Description: Manufacturer URL; ComponentLink1URL: http://www.ti.com/; ComponentLink2Description: Datasheet; ComponentLink2URL: http://www.ti.com/general/docs/lit/getliterature.tsp?genericPartNumber=TL431A&fileType=pdf; ComponentLink3Description: Package Specification; ComponentLink3URL: http://www.ti.com/litv/pdf/mpds108a
footprint SOT-23-3 (SOT-23 3PIN)
pins: 1 CATHODE, 2 REF (in), 3 ANODE

## TL3842P
designator U?
CURRENT-MODE PWM CONTROLLERS
footprint DIP-8
pins: 1 COMP, 2 VFB, 3 INSENSE, 4 RT/CT, 5 GND, 6 OUTPUT, 7 VCC, 8 REF

## TLP155E
designator U?
No Description Available; Mfr_Name: Toshiba Electronic Devices & Storage Corp.; Manufacturer_Part_Number: TLP155E(TPL,E; Number_devices_in_Package: 1; Copyright: Copyright (C) 2023 Ultra Librarian. All rights reserved.; RefDes: RefDes; Type: DEV; Source_Package: TLP155E
footprint SOIC-6N-5
pins: 1, 3, 4, 5, 6
text: SHIELD

## TLP521-4
designator U?
4-Pin Phototransistor Optocoupler; Published: 24-Mar-1999; LatestRevisionDate: 04-Mar-2005; LatestRevisionNote: Sch pins 3 & 4 Swapped.; DatasheetVersion: Nov-2003; PackageReference: DIP-4; Publisher: Altium Limited
footprint soic-16-BIG
part A pins: 1 A "Anode", 2 K "Cathode", 15 E "Emitter", 16 C "Collector"
part B pins: 3 A "Anode", 4 K "Cathode", 13 E "Emitter", 14 C "Collector"
part C pins: 5 A "Anode", 6 K "Cathode", 11 E "Emitter", 12 C "Collector"
part D pins: 7 A "Anode", 8 K "Cathode", 9 E "Emitter", 10 C "Collector"

## TM1637
designator U?
footprint SOIC-20W
pins: 1 GND, 2 SEG1/KS1, 3 SEG2/KS2, 4 SEG3/KS3, 5 SEG4/KS4, 6 SEG5/KS5, 7 SEG6/KS6, 8 SEG7/KS7, 9 SEG8/KS8, 10 GRID6, 11 GRID5, 12 GRID4, 13 GRID3, 14 GRID2, 15 GRID1, 16 VDD, 17 DIO, 18 CLK, 19 K1, 20 K2

## TM-8764-1
designator SW1, comment TM-8764-1_C381065
Manufacturer: XKB Connectivity(中国星坤); Contributor: LCSC; Supplier: LCSC; Supplier Part: C381065; Manufacturer Part: TM-8764-1; JLCPCB Part Class: Extended Part; spicePre: S; spiceSymbolName: TM-8764-1_C381065
footprint TM-8764-1 (Footprint not found)
pins: 1, 2, 3, 4

## TMC2160
designator U?
footprint TSQFP-48 (TSQFP, 48-Leads, Body 7.00x7.00mm, Pitch 0.50mm, Thermal Pad 5.10x5.10mm, IPC Medium Density)
pins: 1 HB1, 2 CB1, 3 12VOUT (in), 4 VSA (in), 5 5VOUT (in), 6 GNDA (power), 7 SRAL, 8 SRAH, 9 SRBH, 10 SRBL, 11 TST_MODE, 12 CLK (in), 13 CSN_CFG3 (in), 14 SCK_CFG2 (in), 15 SDI_CFG1 (in), 16 SDO_CFG0 (out), 17 STEP (in), 18 DIR (in), 19 GND_D (power), 20 VCC_IO1 (power), 21 VCC_IO2 (power), 22 SPI_MODE, 23 DCEN_CFG4 (in), 24 DCIN_CFG5 (in), 25 DCO_CFG6 (in), 26 DIAG0 (out), 27 DIAG1 (out), 28 DRV_EN (in), 29 VCC (in), 30 GNDD (power), 31 CP0 (power), 32 CP1 (power), 33 VS (power), 34 VCP (power), 35 CA2, 36 HA2, 37 BMA2, 38 LA2, 39 LA1, 40 BMA1, 41 HA1, 42 CA1, 43 CB2, 44 HB2, 45 BMB2, 46 LB2, 47 LB1, 48 BMB1, 49 GNDP (power)

## TP4056
designator U?
1A Standalone Linear Li-lon Battery Charger with Thermal
footprint SOIC-8N
pins: 1 TEMP, 2 PROG, 3 GND, 4 Vcc, 5 BAT, 6 ~{STDBY} "Digital Ground: Ground path for digital circuitry", 7 ~{CHRG} "Ground: Ground path for negative PWM speaker drive.", 8 CE "Ground: Ground path for positive PWM speaker drive."

## TP_SMD_Ø1.0MM
designator TP?, comment Ø1.0mm,SMD  (value not drawn)  (no BOM)
1.0mm circular SMD testpad; Part Number: TP_SMD_Ø1.0MM; Manufacturer: Nordic Semiconductor; Manufacturer Part Number: N.A.; Pad Count: 1; LatestRevisionDate: 2013-06-11; Published: 2013-06-11; Value: Ø1.0mm,SMD; Note: N.A.; Artikkelnr Noca: N.A.; Footprint Doc: TP_SMD_Ø1.0mm; Part number IPS: N.A.; ComponentLink1URL: N.A.; ComponentLink1Description: Datasheet; ComponentLink2URL: N.A.; ComponentLink2Description: Supplier link; HelpURL: N.A.; Supplier 1: N.A.; Supplier Part Number 1: N.A.; Supplier 2: N.A.; Supplier Part Number 2: N.A.; Component Class: Connectors; PartId: 100500475
footprint TP_SMD_Ø1.0mm
pins: 1

## TP_SMD_Ø1.5MM
designator TP?, comment Ø1.5mm,SMD  (value not drawn)  (no BOM)
1.5mm circular SMD testpad; Part Number: TP_SMD_Ø1.5MM; Manufacturer: Nordic Semiconductor; Manufacturer Part Number: N.A.; Pad Count: 1; LatestRevisionDate: 2016-06-02; Published: 2016-06-02; Value: Ø1.5mm,SMD; Note: N.A.; Artikkelnr Noca: N.A.; Footprint Doc: TP_SMD_Ø1.5mm; Part number IPS: N.A.; ComponentLink1URL: N.A.; ComponentLink1Description: Datasheet; ComponentLink2URL: N.A.; ComponentLink2Description: Supplier link; HelpURL: N.A.; Supplier 1: N.A.; Supplier Part Number 1: N.A.; Supplier 2: N.A.; Supplier Part Number 2: N.A.; Component Class: Connectors; PartId: 100500477
footprint TP_SMD_Ø1.5mm
pins: 1

## TPS61041
designator U?
footprint SOT-23-5
pins: 1 SW (out), 2 GND (power), 3 FB (in), 4 EN (in), 5 VIN (in)

## Trans CT
designator T?
Center-Tapped Transformer (Coupled Inductor Model); Published: 8-Jun-2000; LatestRevisionDate: 17-Jul-2002; LatestRevisionNote: Re-released for DXP Platform.; PackageReference: TRF_5; Publisher: Altium Limited; PackageDescription: Transformer; 5 Leads
footprint TRF_5 (Transformer; 5 Leads)
pins: 1 Sec+, 2 Pri-, 2 SecCT, 3 Sec-, 5 PriCT, 6 Pri+

## Trans-2:
designator T, comment Transformator  (value not drawn)
footprint EE13-21
pins: 1 F, 2 S, 4 S, 5 F, 6, 10 5

## Trans-4820
designator T, comment Transformator  (value not drawn)
footprint TRANS-4820
pins: 1, 5, 6, 7, 9, 10

## Triple Jumper
designator J?, comment jumper  (value not drawn)
Jumper wire
footprint jumper-3
pins: 1 C1, 2 C2, 3 C3

## TRSNS 2-1
designator T?, comment Transformer 2-1  (value not drawn)
Three-winding Transformer
footprint TOROID-CORE-1
pins: 1 S, 2 F, 3 S, 4 F, 5 S, 6 F

## TS27L2IPT
designator U?
Precision very low power CMOS dual operational amplifier; Manufacturer: STMicroelectronics; Part number IPS: 00000009991; Note: N.A.; Artikkelnr Noca: 17010019; Pad Count: 8; Part Number: TS27L2IPT; Manufacturer Part Number: TS27L2IPT; Footprint Doc: TSSOP-8; LatestRevisionDate: 2016-07-07; Published: 2016-07-07; Value: TS27L2IPT; ComponentLink1URL: N.A.; ComponentLink1Description: Datasheet; ComponentLink2URL: N.A.; ComponentLink2Description: Supplier link; HelpURL: http://www.st.com/content/ccc/resource/technical/document/datasheet/38/5b/ca/bd/c0/26/4a/34/CD00000880.pdf/files/CD00000880.pdf/jcr:content/translations/en.CD00000880.pdf; Supplier 1: Digi-Key; Supplier Part Number 1: 497-8085-1-ND; Supplier 2: N.A.; Supplier Part Number 2: N.A.; Component Class: Misc_ICs; PartId: 101900442
footprint TSOP65P640X120-8N
part A pins: 1 OUT1 (out), 2 IN1- (in), 3 IN1+ (in), 4 V- (power), 8 V+ (power)
part B pins: 5 IN2+ (in), 6 IN2- (in), 7 OUT2 (out)
part A text: A
part B text: A

## TSM250N02DCQ RFG
designator Q?
Dual N Ch MOFET, 5.8A, 55mOhm max, 620mW; Manufacturer: Taiwan Semiconductor; Part number IPS: 00000001703; Note: N.A.; Pad Count: 6; Part Number: TSM250N02DCQ RFG; Manufacturer Part Number: TSM250N02DCQ RFG; LatestRevisionDate: 2018-10-31; Published: 2018-10-31; Value: TSM250N02DCQ RFG; Artikkelnr Noca: N.A.; Footprint Doc: VDFN-6; ComponentLink1URL: https://www.taiwansemi.com/products/datasheet/TSM250N02D_B15.pdf; ComponentLink1Description: Datasheet; ComponentLink2URL: N.A.; ComponentLink2Description: Supplier link; HelpURL: https://www.taiwansemi.com/products/datasheet/TSM250N02D_B15.pdf; Supplier 1: Digi-Key; Supplier Part Number 1: TSM250N02DCQRFGCT-ND; Supplier 2: N.A.; Supplier Part Number 2: N.A.; Component Class: Semiconductors; PartId: 101300161
footprint DFN65P200X200X80_HS-6N
part A pins: 1 S1, 2 G1, 6 D1
part B pins: 3 D2, 4 S2, 5 G2

## TTP223-BA6
designator U?, comment TTP223
footprint SOT-23-6
pins: 1 Q, 2 VSS, 3 I, 4 AHLB, 5 VDD, 6 TOG

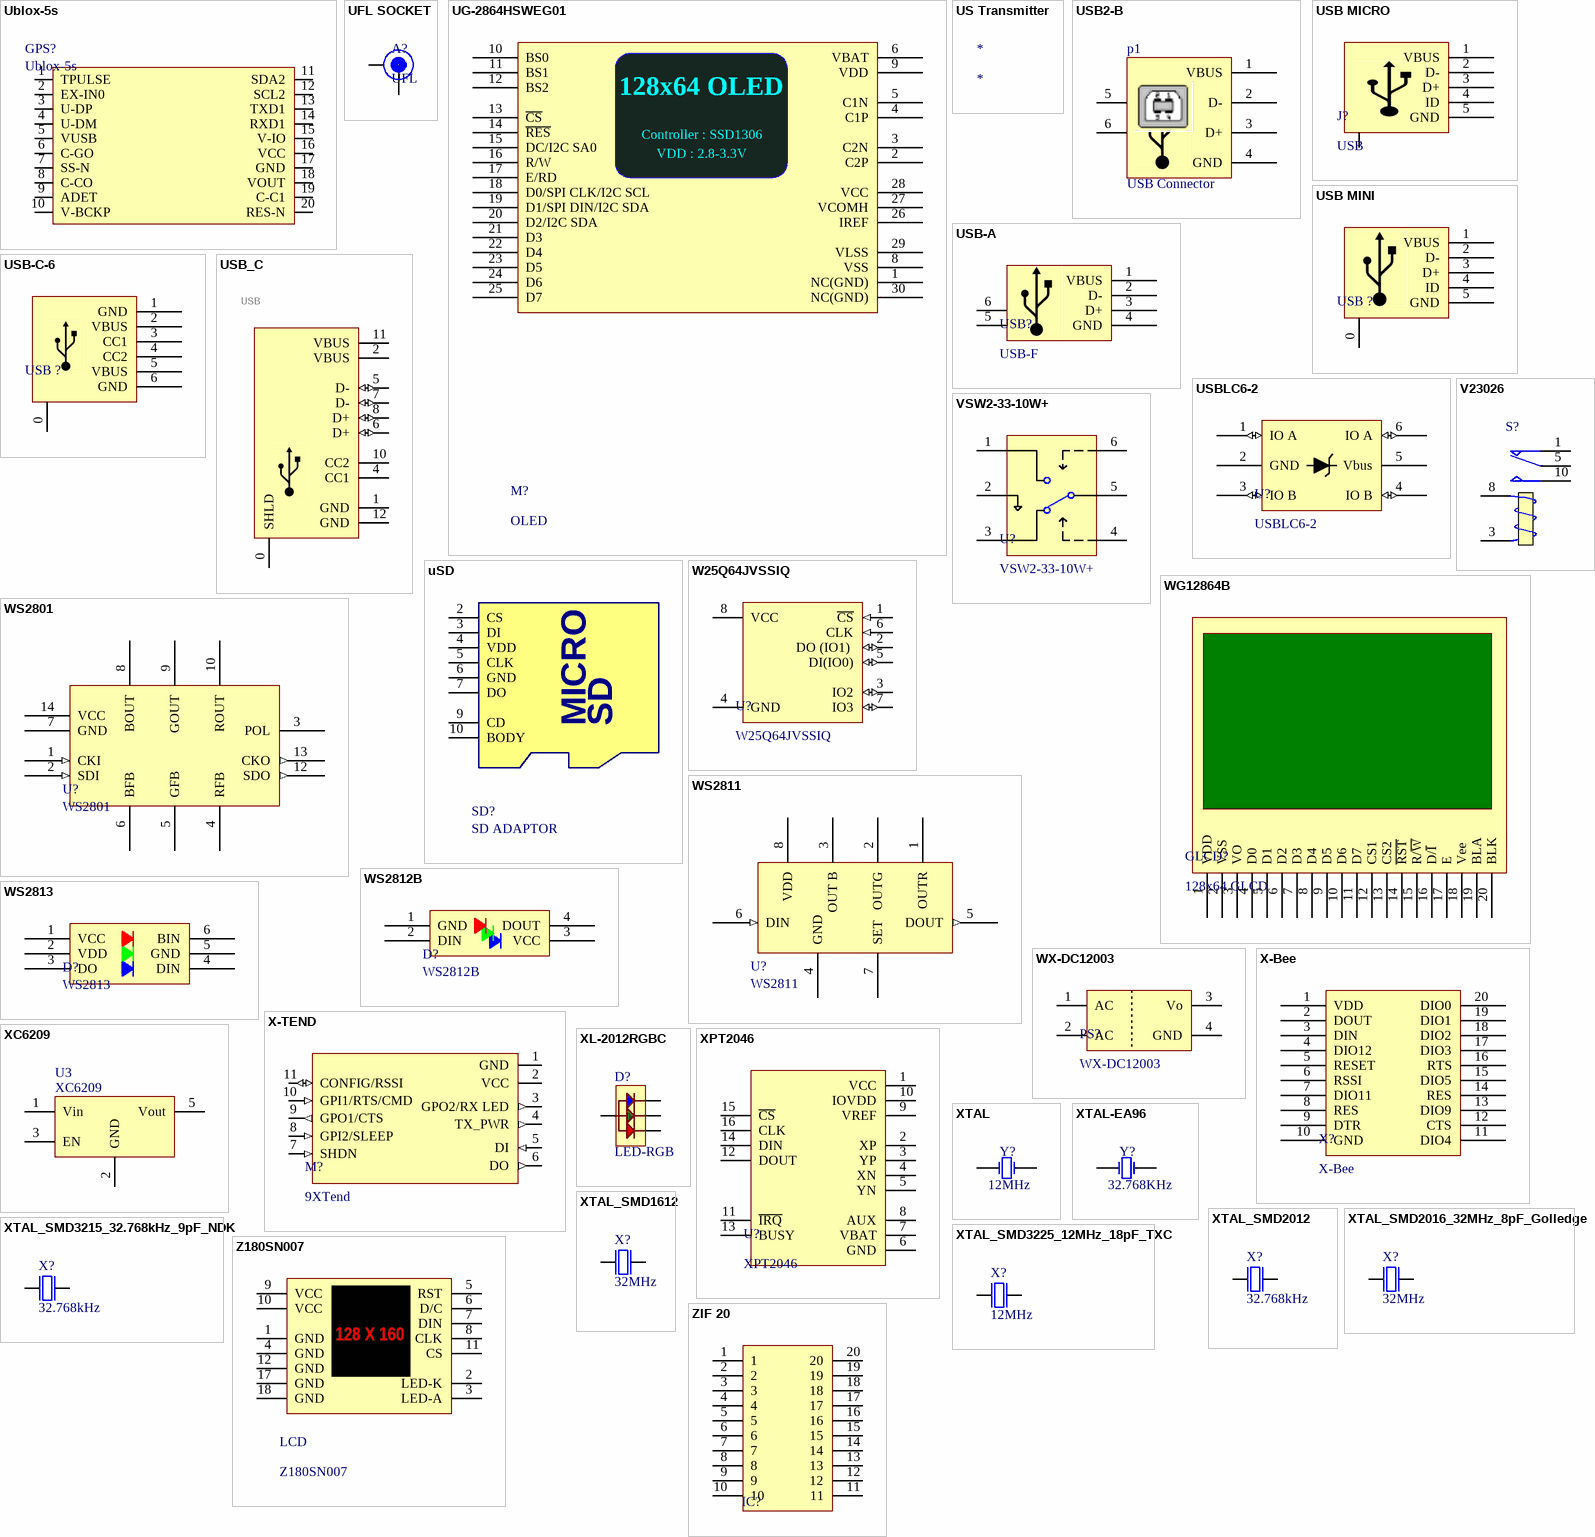
[diagram p16: symbols Ublox-5s to ZIF 20]

## Ublox-5s
designator GPS?
Ublox-5s GPS Module
footprint Ublox-5s (Ublox-5s GPS Module)
pins: 1 TPULSE, 2 EX-IN0, 3 U-DP, 4 U-DM, 5 VUSB, 6 C-GO, 7 SS-N, 8 C-CO, 9 ADET, 10 V-BCKP, 11 SDA2, 12 SCL2, 13 TXD1, 14 RXD1, 15 V-IO, 16 VCC, 17 GND, 18 VOUT, 19 C-C1, 20 RES-N

## UFL SOCKET
designator A?, comment UFL
footprint IPX
pins: 1, 2

## UG-2864HSWEG01
designator M?, comment OLED
128x64 OLED
footprint UG-2864HSWEG01 (0.96INCH OLED 128x64)
pins: 1 NC(GND), 2 C2P, 3 C2N, 4 C1P, 5 C1N, 6 VBAT, 7 NC hidden, 8 VSS, 9 VDD, 10 BS0, 11 BS1, 12 BS2, 13 ~{CS}, 14 ~{RES}, 15 DC/I2C SA0, 16 R/W, 17 E/RD, 18 D0/SPI CLK/I2C SCL, 19 D1/SPI DIN/I2C SDA, 20 D2/I2C SDA, 21 D3, 22 D4, 23 D5, 24 D6, 25 D7, 26 IREF, 27 VCOMH, 28 VCC, 29 VLSS, 30 NC(GND)
text: Controller : SSD1306; VDD : 2.8-3.3V

## US Transmitter
designator *

## USB2-B
designator p1, comment USB Connector
USB Connector-B Type; Designer: Eng. Saeid Jorablo; Company: DASE Co; Adding Date: 10/26/2010
footprint USB2-B-R (Connector; USB1.1, Type B, Thru-Hole; 4 Position; Right Angle)
pins: 1 VBUS (power), 2 D-, 3 D+, 4 GND (power), 5, 6

## USB MICRO
designator J?, comment USB
Micro USB Onboard
footprint MICRO-USB
footprint MICRO-USB-1 (Footprint not found)
pins: 0, 1 VBUS (power), 2 D-, 3 D+, 4 ID (power), 5 GND (power)

## USB MINI
designator USB ?  (value not drawn)
footprint USB-MINI-SMD
pins: 0 BODY, 1 VBUS (power), 2 D-, 3 D+, 4 ID (power), 5 GND (power)

## USB-A
designator USB?, comment USB-F
footprint USB-A-F
pins: 1 VBUS (power), 2 D-, 3 D+, 4 GND (power), 5, 6

## USB-C-6
designator USB ?, comment USB-C  (value not drawn)
footprint USB-C-6
pins: 0 BODY, 1 GND (power), 2 VBUS, 3 CC1, 4 CC2 (power), 5 VBUS (power), 6 GND (power)

## USB_C
designator USB  (value not drawn)
USB Type C 16Pin Connector Super Speed pins not available on the 16-pin purely SMD connector so this part is best for USB 2.0 implementations. D1 and D2 are tied together enabling D+/- no matter which way the cable is plugged into the connector. The two channel configuration pins (CC1/2) are exposed. These are normally connected to ground via 5.1k resistors but can be reconfigured for high current/high power applications.; GateName_1: J1; SymbolName_1: USB-C-MINIMUM; DeviceName: 5; LibraryName: USBC; DeviceSetName: USB_C
footprint USB-C-5 (USB-C-16P-5)
pins: 0 SHLD, 1 GND (power), 2 VBUS (power), 4 CC1, 5 D- (io), 6 D+ (io), 7 D- (io), 8 D+ (io), 10 CC2, 11 VBUS (power), 12 GND (power)

## USBLC6-2
designator U?
Very low capacitance ESD protection
footprint SOT-23-6
pins: 1 IO A (io), 2 GND (power), 3 IO B (io), 4 IO B (io), 5 Vbus (power), 6 IO A (io)

## uSD
designator SD?, comment SD ADAPTOR
uSD ADAPTOR; Designer: Parsa Malekpour; Email: malekpour.parsa@Gmail.com; weblog: p-malekpour.blogfa.com
footprint MICRO-SD
pins: 1 DAT2            hidden, 2 CS, 3 DI, 4 VDD, 5 CLK, 6 GND, 7 DO, 8 DAT1            hidden, 9 CD "CARD DETECTION", 10 BODY
text: MICRO; SD

## V23026
designator S?, comment Signal Relays  (value not drawn)
P1 Relay V23026
footprint V23026-A1001-b201
pins: 1 NC, 3 T2, 5 COM, 6 COM, 8 T1, 10 NO

## VSW2-33-10W+
designator U?
footprint pl-324
pins: 1 J3, 2 GND, 3 J2, 4 V1, 5 J1, 6 V2

## W25Q64JVSSIQ
designator U?
footprint SOIC-8W
pins: 1 ~{CS} (in), 2 DO (IO1)  (io), 3 IO2 (io), 4 GND (power), 5 DI(IO0) (io), 6 CLK (in), 7 IO3 (io), 8 VCC (power)

## WG12864B
designator GLCD?, comment 128x64 GLCD
footprint WG12864B
pins: 1 VDD "GND", 2 VSS "+5V", 3 VO, 4 D0, 5 D1, 6 D2, 7 D3, 8 D4, 9 D5, 10 D6, 11 D7, 12 CS1, 13 CS2, 14 ~{RST}, 15 R/~{W}, 16 D/~{I}, 17 E, 18 Vee, 19 BLA, 20 BLK

## WS2801
designator U?
3-Channel Constant Current / LED Driver With Programmable / PWM Outputs
footprint SOIC-14N
pins: 1 CKI (in), 2 SDI (in), 3 POL (power), 4 RFB (power), 5 GFB (power), 6 BFB (power), 7 GND (power), 8 BOUT (power), 9 GOUT (power), 10 ROUT (power), 12 SDO (out), 13 CKO (out), 14 VCC (power)

## WS2811
designator U?
3-Channel Constant Current / LED Driver With Programmable / PWM Outputs
footprint SOIC-8N
pins: 1 OUTR (power), 2 OUTG (power), 3 OUT B (power), 4 GND (power), 5 DOUT (out), 6 DIN (in), 7 SET (power), 8 VDD (power)

## WS2812B
designator D?
Intelligent control integrated LED light source
footprint LED-5050-4
pins: 1 GND "Control data signal output", 2 DIN, 3 VCC, 4 DOUT

## WS2813
designator D?
Intelligent control integrated LED light source
footprint LED-5050
pins: 1 VCC, 2 VDD, 3 DO "Control data signal output", 4 DIN, 5 GND, 6 BIN "Backup Control data signal input"

## WX-DC12003
designator PS?
AC-DC SMPS
footprint WX-DC12003
pins: 1 AC, 2 AC, 3 Vo, 4 GND

## X-Bee
designator X?
footprint XBEE
pins: 1 VDD, 2 DOUT, 3 DIN, 4 DIO12, 5 RESET, 6 RSSI, 7 DIO11, 8 RES, 9 DTR, 10 GND, 11 DIO4, 12 CTS, 13 DIO9, 14 RES, 15 DIO5, 16 RTS, 17 DIO3, 18 DIO2, 19 DIO1, 20 DIO0

## X-TEND
designator M?, comment 9XTend
9XTend 900MHz RF Module; Designer: Parsa Malekpour; Email: Parsa Malekpour
footprint 9XTend (9XTend 900MHz RF Module)
pins: 1 GND (power), 2 VCC (power), 3 GPO2/RX LED (out), 4 TX_PWR (out), 5 DI (in) "UART RX", 6 DO (out) "UART TX", 7 SHDN (in) "SHOUT DOWN", 8 GPI2/SLEEP (in), 9 GPO1/CTS (out), 10 GPI1/RTS/CMD (in), 11 CONFIG/RSSI (io)

## XC6209
designator U3
150 mA Low-Noise LDO Regulator
footprint SOT-23-5
pins: 1 Vin, 2 GND, 3 EN, 5 Vout

## XL-2012RGBC
designator D?, comment LED-RGB
footprint XL-2012RGBC
pins: 1 R, 2 G, 3 COM, 4 B

## XPT2046
designator U?
The XPT2046 is a 4-wire resistive touch screen controller that incorporates a 12-bit 125 kHz sampling SAR type / A/D converter.
footprint TSSOP-16
pins: 1 VCC, 2 XP, 3 YP, 4 XN, 5 YN, 6 GND, 7 VBAT, 8 AUX, 9 VREF, 10 IOVDD, 11 ~{IRQ}, 12 DOUT, 13 BUSY, 14 DIN, 15 ~{CS}, 16 CLK

## XTAL
designator Y?, comment 12MHz
Crystal Oscillator; Designer: Parsa Malekpour; Email: Malekpour.parsa@Gmail.com; Value: 12MHz
footprint XTAL18
footprint R38 (RTC Crystal PCB)
footprint XTAL-SMD
footprint XTAL-SHORT
footprint XTAL-LONG
pins: 1 OSC1, 2 OSC2

## XTAL-EA96
designator Y?, comment 32.768KHz
Crystal Oscillator; Designer: Parsa Malekpour; Email: Malekpour.parsa@Gmail.com; Value: 32.768KHz
footprint MC-156
pins: 1 OSC1, 4 OSC2

## XTAL_SMD1612
designator X?, comment 32MHz
XTAL SMD 1612, 32MHz, Cl=8pF, Total Tol: ±40ppm; Part Number: XTAL_SMD1612_32MHz_8pF_General; LatestRevisionDate: 2016-08-19; Pin Count: 4; Publisher: Nordic Semiconductor; Published: 2016-08-19; Value: 32MHz; Footprint Doc: XTAL_1612
footprint BT-XTAL_1612
pins: 1 inp, 2 GND hidden to GND, 3 out, 4 GND hidden to GND

## XTAL_SMD2012
designator X?, comment 32.768kHz
XTAL SMD 2012, 32.768kHz, Cl=9pF, Total Tol: ±50ppm; Part Number: XTAL_SMD2012_32.768kHz_9pF_General; LatestRevisionDate: 2017-01-11; Pin Count: 2; Publisher: Nordic Semiconductor; Published: 2016-08-19; Value: 32.768kHz; Footprint Doc: XTAL_2012
footprint XTAL_2012
pins: 1 inp, 2 out

## XTAL_SMD2016_32MHz_8pF_Golledge
designator X?, comment 32MHz
XTAL SMD 2016, 32MHz, Cl=8pF, Tol: ±10ppm, Stab: ±15ppm; Part Number: XTAL_SMD2016_32MHz_8pF_Golledge; Manufacturer: Golledge; Manufacturer Part Number: MP06003; Part number IPS: 00000001431; Note: XTAL SMD 32.000MHz; Artikkelnr Noca: 22010050; Pad Count: 4; LatestRevisionDate: 2016-11-02; Published: 2016-11-02; Value: 32MHz; Footprint Doc: XTAL_2016; ComponentLink1URL: N.A.; ComponentLink1Description: Datasheet; ComponentLink2URL: N.A.; ComponentLink2Description: Supplier link; HelpURL: \\hizz\pro\app9717\Datasheet\crystals\Golledge\mp06003.pdf; Supplier 1: Link Nordic; Supplier Part Number 1: N.A.; Supplier 2: N.A.; Supplier Part Number 2: N.A.; Component Class: Oscillators; PartId: 101600041
footprint BT-XTAL_2016
pins: 1 inp, 2 GND hidden to GND, 3 out, 4 GND hidden to GND

## XTAL_SMD3215_32.768kHz_9pF_NDK
designator X?, comment 32.768kHz
XTAL SMD 3215, 32.768kHz, 9pF, ±20ppm; Part Number: XTAL_SMD3215_32.768kHz_9pF_NDK; Manufacturer: NDK; Manufacturer Part Number: NX3215SA-32.768K-STD-MUA-9; Part number IPS: 00000005419; Note: XTAL SMD 32.768kHz; Artikkelnr Noca: 22010049; Pad Count: 2; LatestRevisionDate: 2017-10-23; Published: 2017-10-23; Value: 32.768kHz; Footprint Doc: XTAL_3215; ComponentLink1URL: N.A.; ComponentLink1Description: Datasheet; ComponentLink2URL: N.A.; ComponentLink2Description: Supplier link; HelpURL: N.A.; Supplier 1: N.A.; Supplier Part Number 1: N.A.; Supplier 2: N.A.; Supplier Part Number 2: N.A.; Component Class: Oscillators; PartId: 101600019
footprint XTAL_3215
pins: 1 inp, 2 out

## XTAL_SMD3225_12MHz_18pF_TXC
designator X?, comment 12MHz
XTAL SMD 3225, 12MHz, Cl=18pF, Tol: ±30ppm, Stab: ±30ppm; Part Number: XTAL_SMD3225_12MHz_18pF_TXC; Manufacturer: TXC Corporation; Manufacturer Part Number: 7M-12.000MAAJ-T; Part number IPS: 00000009994; Note: XTAL SMD 12.000MHz; Artikkelnr Noca: 22019166; Pad Count: 4; LatestRevisionDate: 2014-11-27; Published: 2010-08-31; Value: 12MHz; Footprint Doc: XTAL_3225; ComponentLink1URL: N.A.; ComponentLink1Description: Datasheet; ComponentLink2URL: N.A.; ComponentLink2Description: Supplier link; HelpURL: http://www.txccrystal.com/images/pdf/7m.pdf; Supplier 1: Digi-Key; Supplier Part Number 1: 887-1121-1-ND; Supplier 2: Farnell; Supplier Part Number 2: 184-2056; Component Class: Oscillators; PartId: 101600056
footprint BT-XTAL_3225
pins: 1 inp, 2 GND hidden to GND, 3 out, 4 GND hidden to GND

## Z180SN007
designator LCD
1.8 INCH Display ST7735S
footprint LCD-Z180SN007
pins: 1 GND, 2 LED-K, 3 LED-A, 4 GND, 5 RST, 6 D/C, 7 DIN, 8 CLK, 9 VCC, 10 VCC, 11 CS, 12 GND, 17 GND, 18 GND
text: 128 X 160

## ZIF 20
designator IC?, comment Zif Socket  (value not drawn)
20pin Zip/Zif Socket; Company: ECI CO.; Adding Date: 11/25/2011
footprint ZIF-20
pins: 1, 2, 3, 4, 5, 6, 7, 8, 9, 10, 11, 12, 13, 14, 15, 16, 17, 18, 19, 20

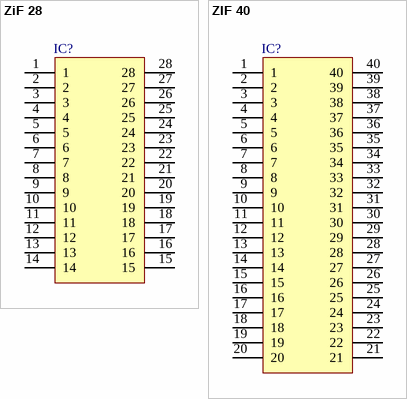
[diagram p17: symbols ZiF 28 to ZIF 40]

## ZiF 28
designator IC?, comment ZiF 28 Socket  (value not drawn)
Company: ECI CO.; Adding Date: 11/25/2011
footprint zif-28 (Footprint not found)
pins: 1, 2, 3, 4, 5, 6, 7, 8, 9, 10, 11, 12, 13, 14, 15, 16, 17, 18, 19, 20, 21, 22, 23, 24, 25, 26, 27, 28

## ZIF 40
designator IC?, comment ZIF 40 Socket  (value not drawn)
40pin Zif Socket; Company: ECI CO.; Adding Date: 11/25/2011
footprint DIP40 - Zip Socket
footprint zif-40
pins: 1, 2, 3, 4, 5, 6, 7, 8, 9, 10, 11, 12, 13, 14, 15, 16, 17, 18, 19, 20, 21, 22, 23, 24, 25, 26, 27, 28, 29, 30, 31, 32, 33, 34, 35, 36, 37, 38, 39, 40